# Altium integrated library ST Microcontroller 8-Bit.IntLib: 1326 symbols (part 15 of 31)
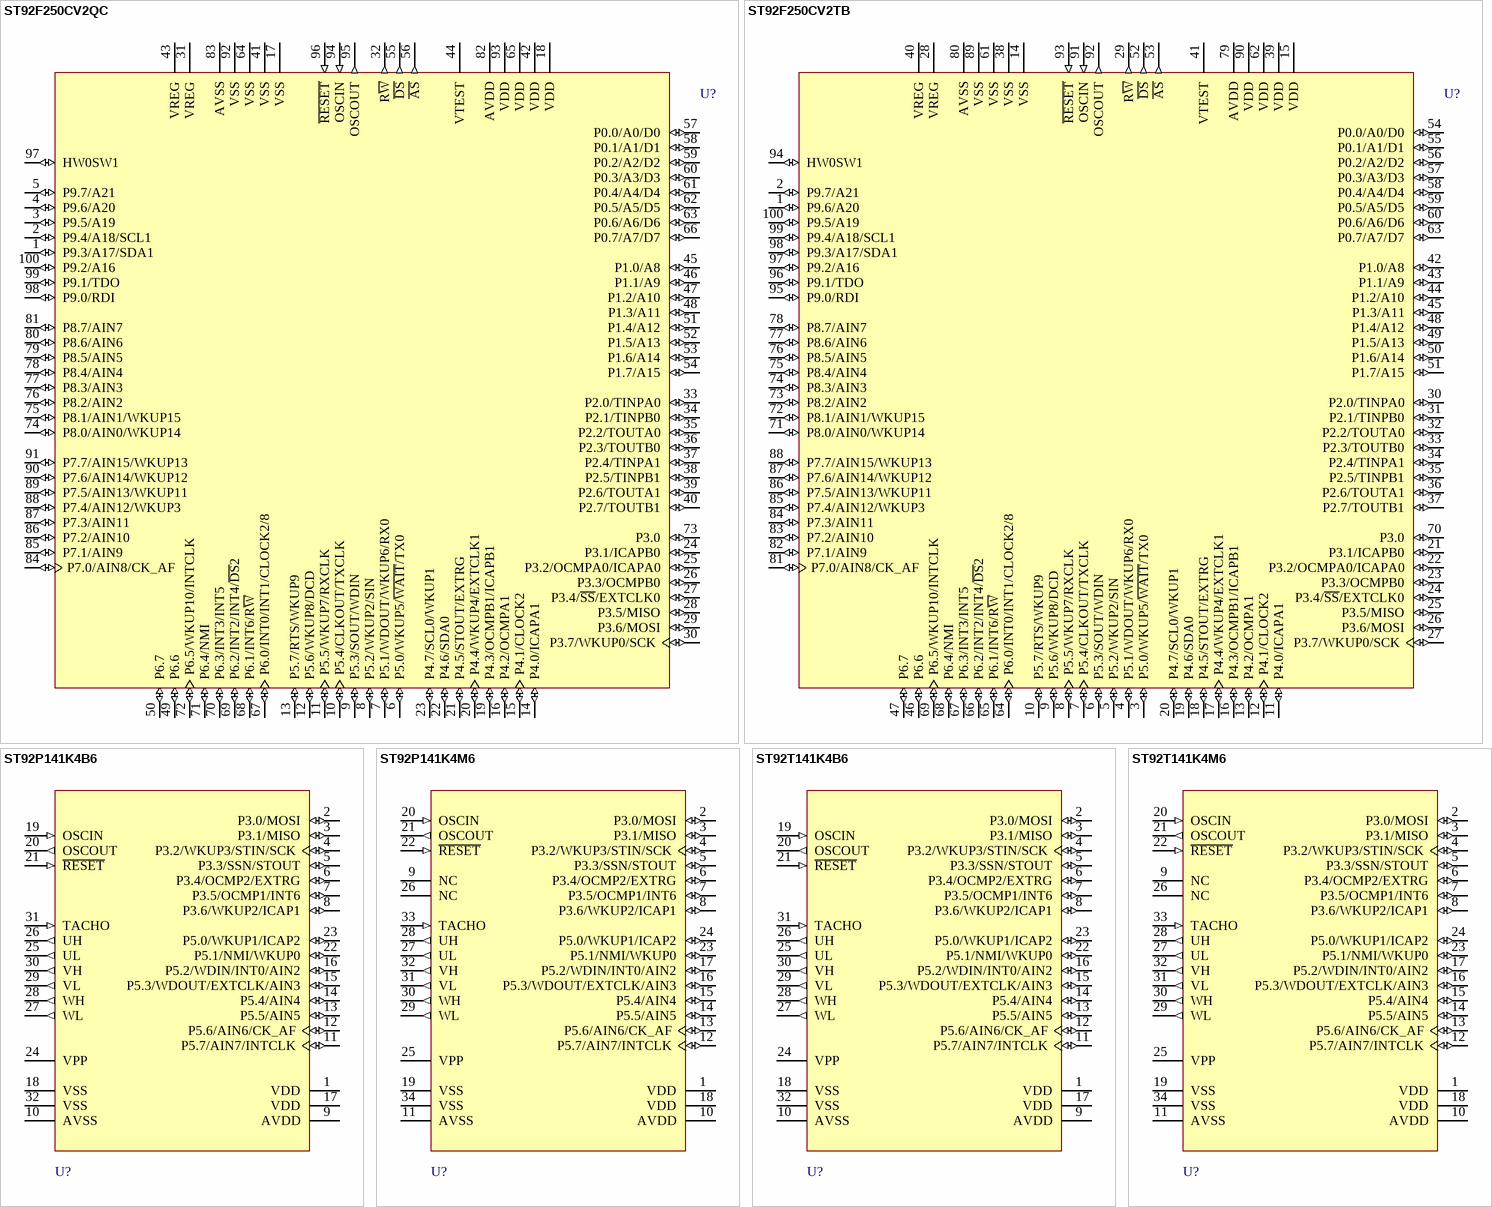
[diagram p181: symbols ST92F250CV2QC to ST92T141K4M6]

## ST92F250CV2TB
designator U?
8/16-Bit MCU with 256k Single Voltage FLASH Memory, 8k RAM, 1k E³PROM, ADC, CAN, LIN Master, Timers, SPI, I²C and SCI, 100-Pin TQFP; Note: VTEST must be kept low in standard operating mode.; Published: 26-May-2004; DatasheetDocument: rev1.3, Dec-2002; PackageDocument: Dec-2002; PackageReference: TQFP100; Publisher: Altium Limited; Code_IPC: SQFP14X14-100
footprint TQFP100 (QFP, Thin; 100 Leads; Body 14 x 14 mm; Pitch 0.5 mm)
pins: 1 P9.6/A20 (io), 2 P9.7/A21 (io), 3 P5.0/WKUP5/~{WAIT}/TX0 (io), 4 P5.1/WDOUT/WKUP6/RX0 (io), 5 P5.2/WKUP2/SIN (io), 6 P5.3/SOUT/WDIN (io), 7 P5.4/CLKOUT/TXCLK (io), 8 P5.5/WKUP7/RXCLK (io), 9 P5.6/WKUP8/DCD (io), 10 P5.7/RTS/WKUP9 (io), 11 P4.0/ICAPA1 (io), 12 P4.1/CLOCK2 (io), 13 P4.2/OCMPA1 (io), 14 VSS (power), 15 VDD (power), 16 P4.3/OCMPB1/ICAPB1 (io), 17 P4.4/WKUP4/EXTCLK1 (io), 18 P4.5/STOUT/EXTRG (io), 19 P4.6/SDA0 (io), 20 P4.7/SCL0/WKUP1 (io), 21 P3.1/ICAPB0 (io), 22 P3.2/OCMPA0/ICAPA0 (io), 23 P3.3/OCMPB0 (io), 24 P3.4/~{SS}/EXTCLK0 (io), 25 P3.5/MISO (io), 26 P3.6/MOSI (io), 27 P3.7/WKUP0/SCK (io), 28 VREG (power), 29 R~{W} (out), 30 P2.0/TINPA0 (io), 31 P2.1/TINPB0 (io), 32 P2.2/TOUTA0 (io), 33 P2.3/TOUTB0 (io), 34 P2.4/TINPA1 (io), 35 P2.5/TINPB1 (io), 36 P2.6/TOUTA1 (io), 37 P2.7/TOUTB1 (io), 38 VSS (power), 39 VDD (power), 40 VREG (power), 41 VTEST (power), 42 P1.0/A8 (io), 43 P1.1/A9 (io), 44 P1.2/A10 (io), 45 P1.3/A11 (io), 46 P6.6 (io), 47 P6.7 (io), 48 P1.4/A12 (io), 49 P1.5/A13 (io), 50 P1.6/A14 (io), 51 P1.7/A15 (io), 52 ~{DS} (out), 53 ~{AS} (out), 54 P0.0/A0/D0 (io), 55 P0.1/A1/D1 (io), 56 P0.2/A2/D2 (io), 57 P0.3/A3/D3 (io), 58 P0.4/A4/D4 (io), 59 P0.5/A5/D5 (io), 60 P0.6/A6/D6 (io), 61 VSS (power), 62 VDD (power), 63 P0.7/A7/D7 (io), 64 P6.0/INT0/INT1/CLOCK2/8 (io), 65 P6.1/INT6/R~{W} (io), 66 P6.2/INT2/INT4/~{DS}2 (io), 67 P6.3/INT3/INT5 (io), 68 P6.4/NMI (io), 69 P6.5/WKUP10/INTCLK (io), 70 P3.0 (io), 71 P8.0/AIN0/WKUP14 (io), 72 P8.1/AIN1/WKUP15 (io), 73 P8.2/AIN2 (io), 74 P8.3/AIN3 (io), 75 P8.4/AIN4 (io), 76 P8.5/AIN5 (io), 77 P8.6/AIN6 (io), 78 P8.7/AIN7 (io), 79 AVDD (power), 80 AVSS (power), 81 P7.0/AIN8/CK_AF (io), 82 P7.1/AIN9 (io), 83 P7.2/AIN10 (io), 84 P7.3/AIN11 (io), 85 P7.4/AIN12/WKUP3 (io), 86 P7.5/AIN13/WKUP11 (io), 87 P7.6/AIN14/WKUP12 (io), 88 P7.7/AIN15/WKUP13 (io), 89 VSS (power), 90 VDD (power), 91 OSCIN (in), 92 OSCOUT (out), 93 ~{RESET} (in), 94 HW0SW1 (io), 95 P9.0/RDI (io), 96 P9.1/TDO (io), 97 P9.2/A16 (io), 98 P9.3/A17/SDA1 (io), 99 P9.4/A18/SCL1 (io), 100 P9.5/A19 (io)

## ST92P141K4B6
designator U?
8/16-Bit MCU with 16k FASTROM, 512b RAM, 3-Phase AC Motor Control, 32-Pin PDIP; PackageDocument: rev1.7, Oct-2001; Published: 26-May-2004; DatasheetDocument: rev3.3, Jan-2001; PackageReference: PSDIP32; Publisher: Altium Limited
footprint PSDIP32 (DIP, Plastic Shrink; 32 Leads; Row Spacing 10.16 mm; Pitch 1.78 mm)
pins: 1 VDD (power), 2 P3.0/MOSI (io), 3 P3.1/MISO (io), 4 P3.2/WKUP3/STIN/SCK (io), 5 P3.3/SSN/STOUT (io), 6 P3.4/OCMP2/EXTRG (io), 7 P3.5/OCMP1/INT6 (io), 8 P3.6/WKUP2/ICAP1 (io), 9 AVDD (power), 10 AVSS (power), 11 P5.7/AIN7/INTCLK (io), 12 P5.6/AIN6/CK_AF (io), 13 P5.5/AIN5 (io), 14 P5.4/AIN4 (io), 15 P5.3/WDOUT/EXTCLK/AIN3 (io), 16 P5.2/WDIN/INT0/AIN2 (io), 17 VDD (power), 18 VSS (power), 19 OSCIN (in), 20 OSCOUT (out), 21 ~{RESET} (in), 22 P5.1/NMI/WKUP0 (io), 23 P5.0/WKUP1/ICAP2 (io), 24 VPP (power), 25 UL (out), 26 UH (out), 27 WL (out), 28 WH (out), 29 VL (out), 30 VH (out), 31 TACHO (in), 32 VSS (power)

## ST92P141K4M6
designator U?
8/16-Bit MCU with 16k FASTROM, 512b RAM, 3-Phase AC Motor Control, 34-Pin SOIC; PackageDocument: rev1.7, Oct-2001; Published: 26-May-2004; DatasheetDocument: rev3.3, Jan-2001; PackageReference: SO34S; Publisher: Altium Limited
footprint SO34S (Small Outline, Plastic; 34 Leads; Body Width 7.5 mm; Pitch 1.02 mm)
pins: 1 VDD (power), 2 P3.0/MOSI (io), 3 P3.1/MISO (io), 4 P3.2/WKUP3/STIN/SCK (io), 5 P3.3/SSN/STOUT (io), 6 P3.4/OCMP2/EXTRG (io), 7 P3.5/OCMP1/INT6 (io), 8 P3.6/WKUP2/ICAP1 (io), 9 NC, 10 AVDD (power), 11 AVSS (power), 12 P5.7/AIN7/INTCLK (io), 13 P5.6/AIN6/CK_AF (io), 14 P5.5/AIN5 (io), 15 P5.4/AIN4 (io), 16 P5.3/WDOUT/EXTCLK/AIN3 (io), 17 P5.2/WDIN/INT0/AIN2 (io), 18 VDD (power), 19 VSS (power), 20 OSCIN (in), 21 OSCOUT (out), 22 ~{RESET} (in), 23 P5.1/NMI/WKUP0 (io), 24 P5.0/WKUP1/ICAP2 (io), 25 VPP (power), 26 NC, 27 UL (out), 28 UH (out), 29 WL (out), 30 WH (out), 31 VL (out), 32 VH (out), 33 TACHO (in), 34 VSS (power)

## ST92T141K4B6
designator U?
8/16-Bit MCU with 16k OTP, 512b RAM, 3-Phase AC Motor Control, 32-Pin PDIP; PackageDocument: rev1.7, Oct-2001; Published: 26-May-2004; DatasheetDocument: rev3.3, Jan-2001; PackageReference: PSDIP32; Publisher: Altium Limited
footprint PSDIP32 (DIP, Plastic Shrink; 32 Leads; Row Spacing 10.16 mm; Pitch 1.78 mm)
pins: 1 VDD (power), 2 P3.0/MOSI (io), 3 P3.1/MISO (io), 4 P3.2/WKUP3/STIN/SCK (io), 5 P3.3/SSN/STOUT (io), 6 P3.4/OCMP2/EXTRG (io), 7 P3.5/OCMP1/INT6 (io), 8 P3.6/WKUP2/ICAP1 (io), 9 AVDD (power), 10 AVSS (power), 11 P5.7/AIN7/INTCLK (io), 12 P5.6/AIN6/CK_AF (io), 13 P5.5/AIN5 (io), 14 P5.4/AIN4 (io), 15 P5.3/WDOUT/EXTCLK/AIN3 (io), 16 P5.2/WDIN/INT0/AIN2 (io), 17 VDD (power), 18 VSS (power), 19 OSCIN (in), 20 OSCOUT (out), 21 ~{RESET} (in), 22 P5.1/NMI/WKUP0 (io), 23 P5.0/WKUP1/ICAP2 (io), 24 VPP (power), 25 UL (out), 26 UH (out), 27 WL (out), 28 WH (out), 29 VL (out), 30 VH (out), 31 TACHO (in), 32 VSS (power)

## ST92T141K4M6
designator U?
8/16-Bit MCU with 16k OTP, 512b RAM, 3-Phase AC Motor Control, 34-Pin SOIC; PackageDocument: rev1.7, Oct-2001; Published: 26-May-2004; DatasheetDocument: rev3.3, Jan-2001; PackageReference: SO34S; Publisher: Altium Limited
footprint SO34S (Small Outline, Plastic; 34 Leads; Body Width 7.5 mm; Pitch 1.02 mm)
pins: 1 VDD (power), 2 P3.0/MOSI (io), 3 P3.1/MISO (io), 4 P3.2/WKUP3/STIN/SCK (io), 5 P3.3/SSN/STOUT (io), 6 P3.4/OCMP2/EXTRG (io), 7 P3.5/OCMP1/INT6 (io), 8 P3.6/WKUP2/ICAP1 (io), 9 NC, 10 AVDD (power), 11 AVSS (power), 12 P5.7/AIN7/INTCLK (io), 13 P5.6/AIN6/CK_AF (io), 14 P5.5/AIN5 (io), 15 P5.4/AIN4 (io), 16 P5.3/WDOUT/EXTCLK/AIN3 (io), 17 P5.2/WDIN/INT0/AIN2 (io), 18 VDD (power), 19 VSS (power), 20 OSCIN (in), 21 OSCOUT (out), 22 ~{RESET} (in), 23 P5.1/NMI/WKUP0 (io), 24 P5.0/WKUP1/ICAP2 (io), 25 VPP (power), 26 NC, 27 UL (out), 28 UH (out), 29 WL (out), 30 WH (out), 31 VL (out), 32 VH (out), 33 TACHO (in), 34 VSS (power)

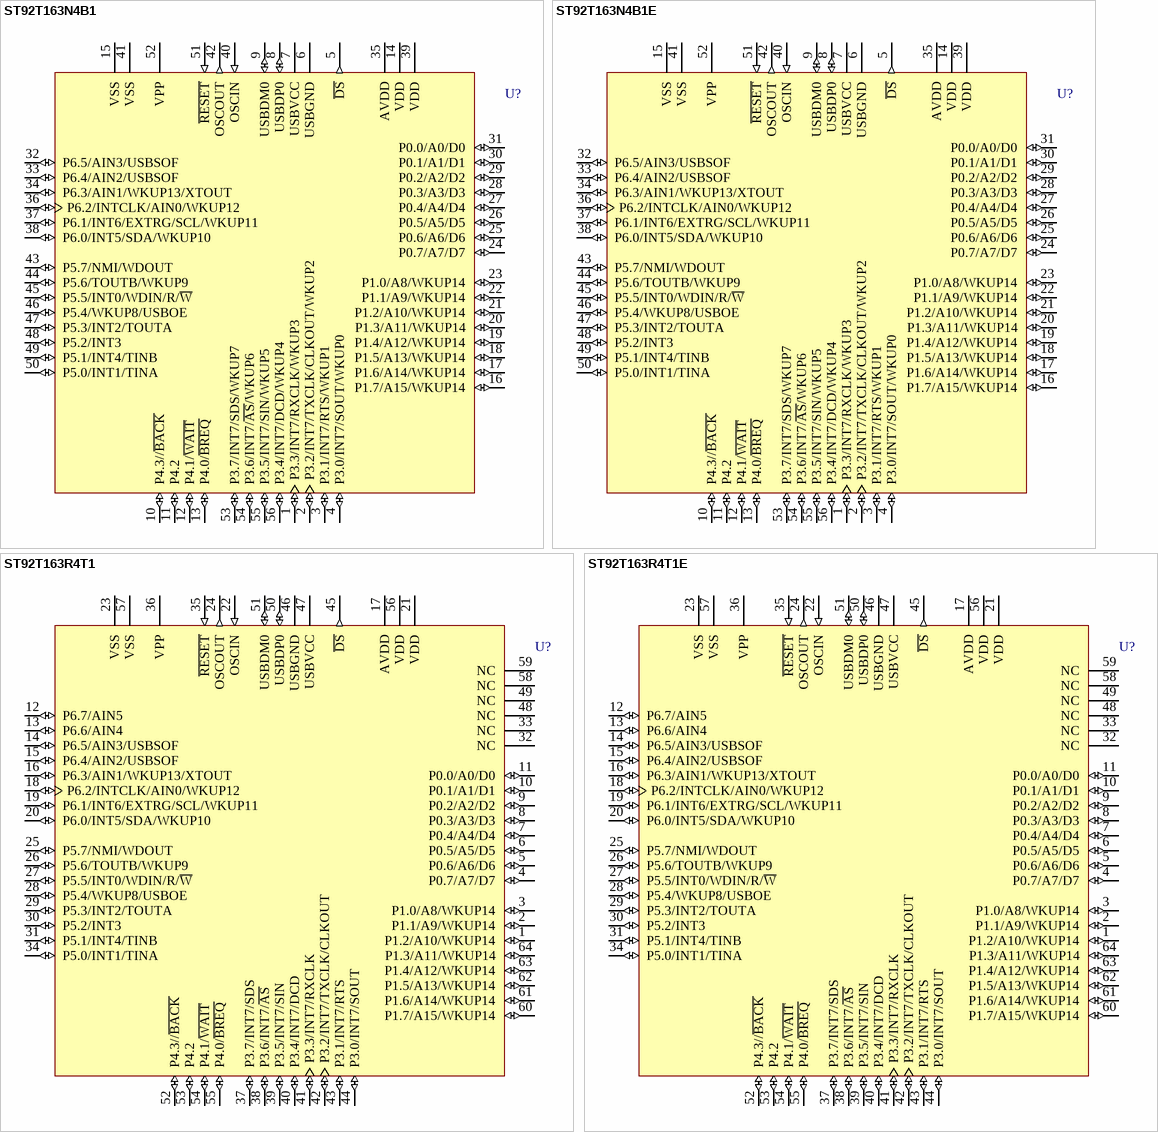
[diagram p76: symbols ST92T163N4B1 to ST92T163R4T1E]

## ST92T163N4B1
designator U?
8/16-Bit MCU with 20k OTP, 2k RAM, Full-Speed USB with 16 Endpoints, I²C, SCI and MFT, 56-Pin SDIP, Normal Mode; Published: 26-May-2004; DatasheetDocument: rev2.4, Jan-2002; PackageDocument: Jan-2002; PackageReference: PSDIP56; Publisher: Altium Limited
footprint PSDIP56 (DIP, Plastic Shrink; 56 Leads; Row Spacing 15.24 mm; Pitch 1.78 mm)
pins: 1 P3.3/INT7/RXCLK/WKUP3 (io), 2 P3.2/INT7/TXCLK/CLKOUT/WKUP2 (io), 3 P3.1/INT7/RTS/WKUP1 (io), 4 P3.0/INT7/SOUT/WKUP0 (io), 5 ~{DS} (out), 6 USBGND (power), 7 USBVCC (power), 8 USBDP0 (io), 9 USBDM0 (io), 10 P4.3//~{BACK} (io), 11 P4.2 (io), 12 P4.1/~{WAIT} (io), 13 P4.0/~{BREQ} (io), 14 VDD (power), 15 VSS (power), 16 P1.7/A15/WKUP14 (io), 17 P1.6/A14/WKUP14 (io), 18 P1.5/A13/WKUP14 (io), 19 P1.4/A12/WKUP14 (io), 20 P1.3/A11/WKUP14 (io), 21 P1.2/A10/WKUP14 (io), 22 P1.1/A9/WKUP14 (io), 23 P1.0/A8/WKUP14 (io), 24 P0.7/A7/D7 (io), 25 P0.6/A6/D6 (io), 26 P0.5/A5/D5 (io), 27 P0.4/A4/D4 (io), 28 P0.3/A3/D3 (io), 29 P0.2/A2/D2 (io), 30 P0.1/A1/D1 (io), 31 P0.0/A0/D0 (io), 32 P6.5/AIN3/USBSOF (io), 33 P6.4/AIN2/USBSOF (io), 34 P6.3/AIN1/WKUP13/XTOUT (io), 35 AVDD (power), 36 P6.2/INTCLK/AIN0/WKUP12 (io), 37 P6.1/INT6/EXTRG/SCL/WKUP11 (io), 38 P6.0/INT5/SDA/WKUP10 (io), 39 VDD (power), 40 OSCIN (in), 41 VSS (power), 42 OSCOUT (out), 43 P5.7/NMI/WDOUT (io), 44 P5.6/TOUTB/WKUP9 (io), 45 P5.5/INT0/WDIN/R/~{W} (io), 46 P5.4/WKUP8/USBOE (io), 47 P5.3/INT2/TOUTA (io), 48 P5.2/INT3 (io), 49 P5.1/INT4/TINB (io), 50 P5.0/INT1/TINA (io), 51 ~{RESET} (in), 52 VPP (power), 53 P3.7/INT7/SDS/WKUP7 (io), 54 P3.6/INT7/~{AS}/WKUP6 (io), 55 P3.5/INT7/SIN/WKUP5 (io), 56 P3.4/INT7/DCD/WKUP4 (io)

## ST92T163N4B1E
designator U?
8/16-Bit MCU with 20k OTP, 2k RAM, Full-Speed USB with 16 Endpoints, I²C, SCI and MFT, 56-Pin SDIP, Normal Mode; Published: 26-May-2004; DatasheetDocument: rev2.4, Jan-2002; PackageDocument: Jan-2002; PackageReference: PSDIP56; Publisher: Altium Limited
footprint PSDIP56 (DIP, Plastic Shrink; 56 Leads; Row Spacing 15.24 mm; Pitch 1.78 mm)
pins: 1 P3.3/INT7/RXCLK/WKUP3 (io), 2 P3.2/INT7/TXCLK/CLKOUT/WKUP2 (io), 3 P3.1/INT7/RTS/WKUP1 (io), 4 P3.0/INT7/SOUT/WKUP0 (io), 5 ~{DS} (out), 6 USBGND (power), 7 USBVCC (power), 8 USBDP0 (io), 9 USBDM0 (io), 10 P4.3//~{BACK} (io), 11 P4.2 (io), 12 P4.1/~{WAIT} (io), 13 P4.0/~{BREQ} (io), 14 VDD (power), 15 VSS (power), 16 P1.7/A15/WKUP14 (io), 17 P1.6/A14/WKUP14 (io), 18 P1.5/A13/WKUP14 (io), 19 P1.4/A12/WKUP14 (io), 20 P1.3/A11/WKUP14 (io), 21 P1.2/A10/WKUP14 (io), 22 P1.1/A9/WKUP14 (io), 23 P1.0/A8/WKUP14 (io), 24 P0.7/A7/D7 (io), 25 P0.6/A6/D6 (io), 26 P0.5/A5/D5 (io), 27 P0.4/A4/D4 (io), 28 P0.3/A3/D3 (io), 29 P0.2/A2/D2 (io), 30 P0.1/A1/D1 (io), 31 P0.0/A0/D0 (io), 32 P6.5/AIN3/USBSOF (io), 33 P6.4/AIN2/USBSOF (io), 34 P6.3/AIN1/WKUP13/XTOUT (io), 35 AVDD (power), 36 P6.2/INTCLK/AIN0/WKUP12 (io), 37 P6.1/INT6/EXTRG/SCL/WKUP11 (io), 38 P6.0/INT5/SDA/WKUP10 (io), 39 VDD (power), 40 OSCIN (in), 41 VSS (power), 42 OSCOUT (out), 43 P5.7/NMI/WDOUT (io), 44 P5.6/TOUTB/WKUP9 (io), 45 P5.5/INT0/WDIN/R/~{W} (io), 46 P5.4/WKUP8/USBOE (io), 47 P5.3/INT2/TOUTA (io), 48 P5.2/INT3 (io), 49 P5.1/INT4/TINB (io), 50 P5.0/INT1/TINA (io), 51 ~{RESET} (in), 52 VPP (power), 53 P3.7/INT7/SDS/WKUP7 (io), 54 P3.6/INT7/~{AS}/WKUP6 (io), 55 P3.5/INT7/SIN/WKUP5 (io), 56 P3.4/INT7/DCD/WKUP4 (io)

## ST92T163R4T1
designator U?
8/16-Bit MCU with 20k OTP, 2k RAM, Full-Speed USB with 16 Endpoints, I²C, SCI and MFT, 64-Pin TQFP, Normal Mode; PackageDocument: rev2.4, Jan-2002; Published: 26-May-2004; DatasheetDocument: rev2.4, Jan-2002; PackageReference: TQFP64-0.8; Publisher: Altium Limited
footprint TQFP64-0.8 (QFP, Thin; 64 Leads; Body 14 x 14 mm; Pitch 0.8 mm)
pins: 1 P1.2/A10/WKUP14 (io), 2 P1.1/A9/WKUP14 (io), 3 P1.0/A8/WKUP14 (io), 4 P0.7/A7/D7 (io), 5 P0.6/A6/D6 (io), 6 P0.5/A5/D5 (io), 7 P0.4/A4/D4 (io), 8 P0.3/A3/D3 (io), 9 P0.2/A2/D2 (io), 10 P0.1/A1/D1 (io), 11 P0.0/A0/D0 (io), 12 P6.7/AIN5 (io), 13 P6.6/AIN4 (io), 14 P6.5/AIN3/USBSOF (io), 15 P6.4/AIN2/USBSOF (io), 16 P6.3/AIN1/WKUP13/XTOUT (io), 17 AVDD (power), 18 P6.2/INTCLK/AIN0/WKUP12 (io), 19 P6.1/INT6/EXTRG/SCL/WKUP11 (io), 20 P6.0/INT5/SDA/WKUP10 (io), 21 VDD (power), 22 OSCIN (in), 23 VSS (power), 24 OSCOUT (out), 25 P5.7/NMI/WDOUT (io), 26 P5.6/TOUTB/WKUP9 (io), 27 P5.5/INT0/WDIN/R/~{W} (io), 28 P5.4/WKUP8/USBOE (io), 29 P5.3/INT2/TOUTA (io), 30 P5.2/INT3 (io), 31 P5.1/INT4/TINB (io), 32 NC, 33 NC, 34 P5.0/INT1/TINA (io), 35 ~{RESET} (in), 36 VPP (power), 37 P3.7/INT7/SDS (io), 38 P3.6/INT7/~{AS} (io), 39 P3.5/INT7/SIN (io), 40 P3.4/INT7/DCD (io), 41 P3.3/INT7/RXCLK (io), 42 P3.2/INT7/TXCLK/CLKOUT (io), 43 P3.1/INT7/RTS (io), 44 P3.0/INT7/SOUT (io), 45 ~{DS} (out), 46 USBGND (power), 47 USBVCC (power), 48 NC, 49 NC, 50 USBDP0 (io), 51 USBDM0 (io), 52 P4.3//~{BACK} (io), 53 P4.2 (io), 54 P4.1/~{WAIT} (io), 55 P4.0/~{BREQ} (io), 56 VDD (power), 57 VSS (power), 58 NC, 59 NC, 60 P1.7/A15/WKUP14 (io), 61 P1.6/A14/WKUP14 (io), 62 P1.5/A13/WKUP14 (io), 63 P1.4/A12/WKUP14 (io), 64 P1.3/A11/WKUP14 (io)

## ST92T163R4T1E
designator U?
8/16-Bit MCU with 20k OTP, 2k RAM, Full-Speed USB with 16 Endpoints, I²C, SCI and MFT, 64-Pin TQFP, Normal Mode; PackageDocument: rev2.4, Jan-2002; Published: 26-May-2004; DatasheetDocument: rev2.4, Jan-2002; PackageReference: TQFP64-0.8; Publisher: Altium Limited
footprint TQFP64-0.8 (QFP, Thin; 64 Leads; Body 14 x 14 mm; Pitch 0.8 mm)
pins: 1 P1.2/A10/WKUP14 (io), 2 P1.1/A9/WKUP14 (io), 3 P1.0/A8/WKUP14 (io), 4 P0.7/A7/D7 (io), 5 P0.6/A6/D6 (io), 6 P0.5/A5/D5 (io), 7 P0.4/A4/D4 (io), 8 P0.3/A3/D3 (io), 9 P0.2/A2/D2 (io), 10 P0.1/A1/D1 (io), 11 P0.0/A0/D0 (io), 12 P6.7/AIN5 (io), 13 P6.6/AIN4 (io), 14 P6.5/AIN3/USBSOF (io), 15 P6.4/AIN2/USBSOF (io), 16 P6.3/AIN1/WKUP13/XTOUT (io), 17 AVDD (power), 18 P6.2/INTCLK/AIN0/WKUP12 (io), 19 P6.1/INT6/EXTRG/SCL/WKUP11 (io), 20 P6.0/INT5/SDA/WKUP10 (io), 21 VDD (power), 22 OSCIN (in), 23 VSS (power), 24 OSCOUT (out), 25 P5.7/NMI/WDOUT (io), 26 P5.6/TOUTB/WKUP9 (io), 27 P5.5/INT0/WDIN/R/~{W} (io), 28 P5.4/WKUP8/USBOE (io), 29 P5.3/INT2/TOUTA (io), 30 P5.2/INT3 (io), 31 P5.1/INT4/TINB (io), 32 NC, 33 NC, 34 P5.0/INT1/TINA (io), 35 ~{RESET} (in), 36 VPP (power), 37 P3.7/INT7/SDS (io), 38 P3.6/INT7/~{AS} (io), 39 P3.5/INT7/SIN (io), 40 P3.4/INT7/DCD (io), 41 P3.3/INT7/RXCLK (io), 42 P3.2/INT7/TXCLK/CLKOUT (io), 43 P3.1/INT7/RTS (io), 44 P3.0/INT7/SOUT (io), 45 ~{DS} (out), 46 USBGND (power), 47 USBVCC (power), 48 NC, 49 NC, 50 USBDP0 (io), 51 USBDM0 (io), 52 P4.3//~{BACK} (io), 53 P4.2 (io), 54 P4.1/~{WAIT} (io), 55 P4.0/~{BREQ} (io), 56 VDD (power), 57 VSS (power), 58 NC, 59 NC, 60 P1.7/A15/WKUP14 (io), 61 P1.6/A14/WKUP14 (io), 62 P1.5/A13/WKUP14 (io), 63 P1.4/A12/WKUP14 (io), 64 P1.3/A11/WKUP14 (io)

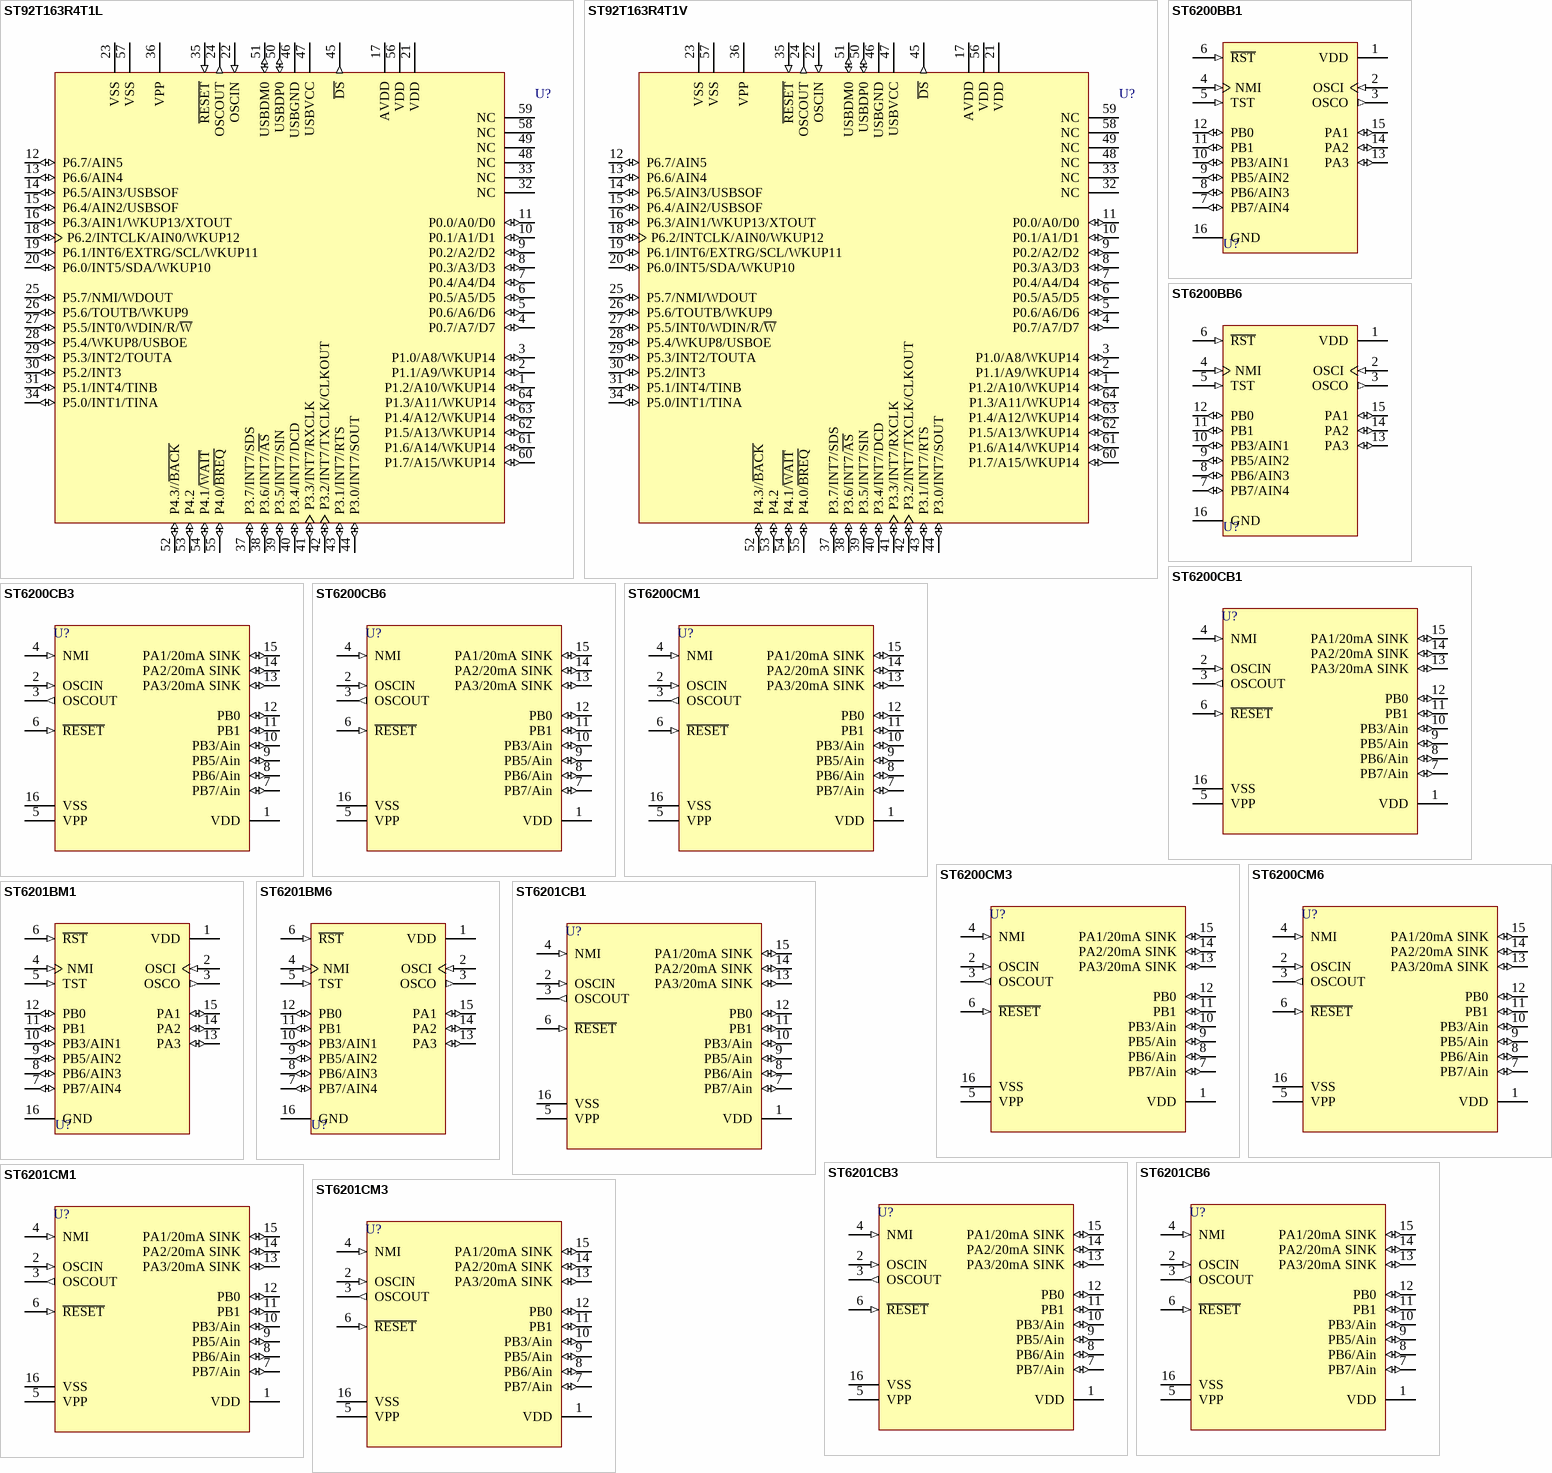
[diagram p77: symbols ST92T163R4T1L to ST6201CM3]

## ST92T163R4T1L
designator U?
8/16-Bit MCU with 20k OTP, 2k RAM, Full-Speed USB with 16 Endpoints, I²C, SCI and MFT, 64-Pin TQFP, Low Voltage Mode; PackageDocument: rev2.4, Jan-2002; Published: 26-May-2004; DatasheetDocument: rev2.4, Jan-2002; PackageReference: TQFP64-0.8; Publisher: Altium Limited
footprint TQFP64-0.8 (QFP, Thin; 64 Leads; Body 14 x 14 mm; Pitch 0.8 mm)
pins: 1 P1.2/A10/WKUP14 (io), 2 P1.1/A9/WKUP14 (io), 3 P1.0/A8/WKUP14 (io), 4 P0.7/A7/D7 (io), 5 P0.6/A6/D6 (io), 6 P0.5/A5/D5 (io), 7 P0.4/A4/D4 (io), 8 P0.3/A3/D3 (io), 9 P0.2/A2/D2 (io), 10 P0.1/A1/D1 (io), 11 P0.0/A0/D0 (io), 12 P6.7/AIN5 (io), 13 P6.6/AIN4 (io), 14 P6.5/AIN3/USBSOF (io), 15 P6.4/AIN2/USBSOF (io), 16 P6.3/AIN1/WKUP13/XTOUT (io), 17 AVDD (power), 18 P6.2/INTCLK/AIN0/WKUP12 (io), 19 P6.1/INT6/EXTRG/SCL/WKUP11 (io), 20 P6.0/INT5/SDA/WKUP10 (io), 21 VDD (power), 22 OSCIN (in), 23 VSS (power), 24 OSCOUT (out), 25 P5.7/NMI/WDOUT (io), 26 P5.6/TOUTB/WKUP9 (io), 27 P5.5/INT0/WDIN/R/~{W} (io), 28 P5.4/WKUP8/USBOE (io), 29 P5.3/INT2/TOUTA (io), 30 P5.2/INT3 (io), 31 P5.1/INT4/TINB (io), 32 NC, 33 NC, 34 P5.0/INT1/TINA (io), 35 ~{RESET} (in), 36 VPP (power), 37 P3.7/INT7/SDS (io), 38 P3.6/INT7/~{AS} (io), 39 P3.5/INT7/SIN (io), 40 P3.4/INT7/DCD (io), 41 P3.3/INT7/RXCLK (io), 42 P3.2/INT7/TXCLK/CLKOUT (io), 43 P3.1/INT7/RTS (io), 44 P3.0/INT7/SOUT (io), 45 ~{DS} (out), 46 USBGND (power), 47 USBVCC (power), 48 NC, 49 NC, 50 USBDP0 (io), 51 USBDM0 (io), 52 P4.3//~{BACK} (io), 53 P4.2 (io), 54 P4.1/~{WAIT} (io), 55 P4.0/~{BREQ} (io), 56 VDD (power), 57 VSS (power), 58 NC, 59 NC, 60 P1.7/A15/WKUP14 (io), 61 P1.6/A14/WKUP14 (io), 62 P1.5/A13/WKUP14 (io), 63 P1.4/A12/WKUP14 (io), 64 P1.3/A11/WKUP14 (io)

## ST92T163R4T1V
designator U?
8/16-Bit MCU with 20k OTP, 2k RAM, Full-Speed USB with 16 Endpoints, I²C, SCI and MFT, 64-Pin TQFP, Low Voltage Mode; PackageDocument: rev2.4, Jan-2002; Published: 26-May-2004; DatasheetDocument: rev2.4, Jan-2002; PackageReference: TQFP64-0.8; Publisher: Altium Limited
footprint TQFP64-0.8 (QFP, Thin; 64 Leads; Body 14 x 14 mm; Pitch 0.8 mm)
pins: 1 P1.2/A10/WKUP14 (io), 2 P1.1/A9/WKUP14 (io), 3 P1.0/A8/WKUP14 (io), 4 P0.7/A7/D7 (io), 5 P0.6/A6/D6 (io), 6 P0.5/A5/D5 (io), 7 P0.4/A4/D4 (io), 8 P0.3/A3/D3 (io), 9 P0.2/A2/D2 (io), 10 P0.1/A1/D1 (io), 11 P0.0/A0/D0 (io), 12 P6.7/AIN5 (io), 13 P6.6/AIN4 (io), 14 P6.5/AIN3/USBSOF (io), 15 P6.4/AIN2/USBSOF (io), 16 P6.3/AIN1/WKUP13/XTOUT (io), 17 AVDD (power), 18 P6.2/INTCLK/AIN0/WKUP12 (io), 19 P6.1/INT6/EXTRG/SCL/WKUP11 (io), 20 P6.0/INT5/SDA/WKUP10 (io), 21 VDD (power), 22 OSCIN (in), 23 VSS (power), 24 OSCOUT (out), 25 P5.7/NMI/WDOUT (io), 26 P5.6/TOUTB/WKUP9 (io), 27 P5.5/INT0/WDIN/R/~{W} (io), 28 P5.4/WKUP8/USBOE (io), 29 P5.3/INT2/TOUTA (io), 30 P5.2/INT3 (io), 31 P5.1/INT4/TINB (io), 32 NC, 33 NC, 34 P5.0/INT1/TINA (io), 35 ~{RESET} (in), 36 VPP (power), 37 P3.7/INT7/SDS (io), 38 P3.6/INT7/~{AS} (io), 39 P3.5/INT7/SIN (io), 40 P3.4/INT7/DCD (io), 41 P3.3/INT7/RXCLK (io), 42 P3.2/INT7/TXCLK/CLKOUT (io), 43 P3.1/INT7/RTS (io), 44 P3.0/INT7/SOUT (io), 45 ~{DS} (out), 46 USBGND (power), 47 USBVCC (power), 48 NC, 49 NC, 50 USBDP0 (io), 51 USBDM0 (io), 52 P4.3//~{BACK} (io), 53 P4.2 (io), 54 P4.1/~{WAIT} (io), 55 P4.0/~{BREQ} (io), 56 VDD (power), 57 VSS (power), 58 NC, 59 NC, 60 P1.7/A15/WKUP14 (io), 61 P1.6/A14/WKUP14 (io), 62 P1.5/A13/WKUP14 (io), 63 P1.4/A12/WKUP14 (io), 64 P1.3/A11/WKUP14 (io)

## ST6200BB1
designator U?
8-Bit HCMOS MCU with A/D Converter; Published: 24-Aug-2001; LatestRevisionDate: 17-Jul-2002; LatestRevisionNote: Re-released for DXP Platform.; DatasheetDocument: Oct-1996; PackageDocument: Apr-1996; PackageReference: DIP16; Publisher: Altium Limited
footprint DIP16 (DIP; 16 Leads; Row Spacing 7.62 mm; Pitch 2.54 mm)
pins: 1 VDD (power), 2 OSCI (in), 3 OSCO (out), 4 NMI (in), 5 TST (in), 6 ~{RST} (in), 7 PB7/AIN4 (io), 8 PB6/AIN3 (io), 9 PB5/AIN2 (io), 10 PB3/AIN1 (io), 11 PB1 (io), 12 PB0 (io), 13 PA3 (io), 14 PA2 (io), 15 PA1 (io), 16 GND (power)

## ST6200BB6
designator U?
8-Bit HCMOS MCU with A/D Converter; Published: 24-Aug-2001; LatestRevisionDate: 17-Jul-2002; LatestRevisionNote: Re-released for DXP Platform.; DatasheetDocument: Oct-1996; PackageDocument: Apr-1996; PackageReference: DIP16; Publisher: Altium Limited
footprint DIP16 (DIP; 16 Leads; Row Spacing 7.62 mm; Pitch 2.54 mm)
pins: 1 VDD (power), 2 OSCI (in), 3 OSCO (out), 4 NMI (in), 5 TST (in), 6 ~{RST} (in), 7 PB7/AIN4 (io), 8 PB6/AIN3 (io), 9 PB5/AIN2 (io), 10 PB3/AIN1 (io), 11 PB1 (io), 12 PB0 (io), 13 PA3 (io), 14 PA2 (io), 15 PA1 (io), 16 GND (power)

## ST6200CB1
designator U?
8-Bit ROM MCU with A/D Converter, Two Timers, Oscillator Safeguard and Safe Reset, 16-Pin PDIP, Standard; Published: 26-May-2004; DatasheetDocument: rev3.3, Oct-2003; PackageDocument: Dec-2003; PackageReference: PDIP16; Publisher: Altium Limited
footprint PDIP16 (DIP; 16 Leads; Row Spacing 7.62 mm; Pitch 2.54 mm)
pins: 1 VDD (power), 2 OSCIN (in), 3 OSCOUT (out), 4 NMI (in), 5 VPP (power), 6 ~{RESET} (in), 7 PB7/Ain (io), 8 PB6/Ain (io), 9 PB5/Ain (io), 10 PB3/Ain (io), 11 PB1 (io), 12 PB0 (io), 13 PA3/20mA SINK (io), 14 PA2/20mA SINK (io), 15 PA1/20mA SINK (io), 16 VSS (power)

## ST6200CB3
designator U?
8-Bit ROM MCU with A/D Converter, Two Timers, Oscillator Safeguard and Safe Reset, 16-Pin PDIP, Automotive; Published: 26-May-2004; DatasheetDocument: rev3.3, Oct-2003; PackageDocument: Dec-2003; PackageReference: PDIP16; Publisher: Altium Limited
footprint PDIP16 (DIP; 16 Leads; Row Spacing 7.62 mm; Pitch 2.54 mm)
pins: 1 VDD (power), 2 OSCIN (in), 3 OSCOUT (out), 4 NMI (in), 5 VPP (power), 6 ~{RESET} (in), 7 PB7/Ain (io), 8 PB6/Ain (io), 9 PB5/Ain (io), 10 PB3/Ain (io), 11 PB1 (io), 12 PB0 (io), 13 PA3/20mA SINK (io), 14 PA2/20mA SINK (io), 15 PA1/20mA SINK (io), 16 VSS (power)

## ST6200CB6
designator U?
8-Bit ROM MCU with A/D Converter, Two Timers, Oscillator Safeguard and Safe Reset, 16-Pin PDIP, Industrial; Published: 26-May-2004; DatasheetDocument: rev3.3, Oct-2003; PackageDocument: Dec-2003; PackageReference: PDIP16; Publisher: Altium Limited
footprint PDIP16 (DIP; 16 Leads; Row Spacing 7.62 mm; Pitch 2.54 mm)
pins: 1 VDD (power), 2 OSCIN (in), 3 OSCOUT (out), 4 NMI (in), 5 VPP (power), 6 ~{RESET} (in), 7 PB7/Ain (io), 8 PB6/Ain (io), 9 PB5/Ain (io), 10 PB3/Ain (io), 11 PB1 (io), 12 PB0 (io), 13 PA3/20mA SINK (io), 14 PA2/20mA SINK (io), 15 PA1/20mA SINK (io), 16 VSS (power)

## ST6200CM1
designator U?
8-Bit ROM MCU with A/D Converter, Two Timers, Oscillator Safeguard and Safe Reset, 16-Pin SOIC, Standard; Published: 26-May-2004; DatasheetDocument: rev3.3, Oct-2003; PackageDocument: Apr-1998; PackageReference: SO16W; Publisher: Altium Limited; Code_JEDEC: MS-013-AA; Code_IPC: SO16W
footprint SO16W (Small Outline; 16 Leads; Body Width 7.5 mm; Pitch 1.27 mm)
pins: 1 VDD (power), 2 OSCIN (in), 3 OSCOUT (out), 4 NMI (in), 5 VPP (power), 6 ~{RESET} (in), 7 PB7/Ain (io), 8 PB6/Ain (io), 9 PB5/Ain (io), 10 PB3/Ain (io), 11 PB1 (io), 12 PB0 (io), 13 PA3/20mA SINK (io), 14 PA2/20mA SINK (io), 15 PA1/20mA SINK (io), 16 VSS (power)

## ST6200CM3
designator U?
8-Bit ROM MCU with A/D Converter, Two Timers, Oscillator Safeguard and Safe Reset, 16-Pin SOIC, Automotive; Published: 26-May-2004; DatasheetDocument: rev3.3, Oct-2003; PackageDocument: Apr-1998; PackageReference: SO16W; Publisher: Altium Limited; Code_JEDEC: MS-013-AA; Code_IPC: SO16W
footprint SO16W (Small Outline; 16 Leads; Body Width 7.5 mm; Pitch 1.27 mm)
pins: 1 VDD (power), 2 OSCIN (in), 3 OSCOUT (out), 4 NMI (in), 5 VPP (power), 6 ~{RESET} (in), 7 PB7/Ain (io), 8 PB6/Ain (io), 9 PB5/Ain (io), 10 PB3/Ain (io), 11 PB1 (io), 12 PB0 (io), 13 PA3/20mA SINK (io), 14 PA2/20mA SINK (io), 15 PA1/20mA SINK (io), 16 VSS (power)

## ST6200CM6
designator U?
8-Bit ROM MCU with A/D Converter, Two Timers, Oscillator Safeguard and Safe Reset, 16-Pin SOIC, Industrial; Published: 26-May-2004; DatasheetDocument: rev3.3, Oct-2003; PackageDocument: Apr-1998; PackageReference: SO16W; Publisher: Altium Limited; Code_JEDEC: MS-013-AA; Code_IPC: SO16W
footprint SO16W (Small Outline; 16 Leads; Body Width 7.5 mm; Pitch 1.27 mm)
pins: 1 VDD (power), 2 OSCIN (in), 3 OSCOUT (out), 4 NMI (in), 5 VPP (power), 6 ~{RESET} (in), 7 PB7/Ain (io), 8 PB6/Ain (io), 9 PB5/Ain (io), 10 PB3/Ain (io), 11 PB1 (io), 12 PB0 (io), 13 PA3/20mA SINK (io), 14 PA2/20mA SINK (io), 15 PA1/20mA SINK (io), 16 VSS (power)

## ST6201BM1
designator U?
8-Bit HCMOS MCU with A/D Converter; Published: 24-Aug-2001; LatestRevisionDate: 26-May-2004; LatestRevisionNote: PCB Footprint adjusted to match with IPC-SM-782.; DatasheetDocument: Oct-1996; PackageDocument: Apr-1998; PackageReference: SO16W; Publisher: Altium Limited; Code_JEDEC: MS-013-AA; Code_IPC: SO16W
footprint SO16W (Small Outline; 16 Leads; Body Width 7.5 mm; Pitch 1.27 mm)
pins: 1 VDD (power), 2 OSCI (in), 3 OSCO (out), 4 NMI (in), 5 TST (in), 6 ~{RST} (in), 7 PB7/AIN4 (io), 8 PB6/AIN3 (io), 9 PB5/AIN2 (io), 10 PB3/AIN1 (io), 11 PB1 (io), 12 PB0 (io), 13 PA3 (io), 14 PA2 (io), 15 PA1 (io), 16 GND (power)

## ST6201BM6
designator U?
8-Bit HCMOS MCU with A/D Converter; Published: 24-Aug-2001; LatestRevisionDate: 26-May-2004; LatestRevisionNote: PCB Footprint adjusted to match with IPC-SM-782.; DatasheetDocument: Oct-1996; PackageDocument: Apr-1998; PackageReference: SO16W; Publisher: Altium Limited; Code_JEDEC: MS-013-AA; Code_IPC: SO16W
footprint SO16W (Small Outline; 16 Leads; Body Width 7.5 mm; Pitch 1.27 mm)
pins: 1 VDD (power), 2 OSCI (in), 3 OSCO (out), 4 NMI (in), 5 TST (in), 6 ~{RST} (in), 7 PB7/AIN4 (io), 8 PB6/AIN3 (io), 9 PB5/AIN2 (io), 10 PB3/AIN1 (io), 11 PB1 (io), 12 PB0 (io), 13 PA3 (io), 14 PA2 (io), 15 PA1 (io), 16 GND (power)

## ST6201CB1
designator U?
8-Bit ROM MCU with A/D Converter, Two Timers, Oscillator Safeguard and Safe Reset, 16-Pin PDIP, Standard; Published: 26-May-2004; DatasheetDocument: rev3.3, Oct-2003; PackageDocument: Dec-2003; PackageReference: PDIP16; Publisher: Altium Limited
footprint PDIP16 (DIP; 16 Leads; Row Spacing 7.62 mm; Pitch 2.54 mm)
pins: 1 VDD (power), 2 OSCIN (in), 3 OSCOUT (out), 4 NMI (in), 5 VPP (power), 6 ~{RESET} (in), 7 PB7/Ain (io), 8 PB6/Ain (io), 9 PB5/Ain (io), 10 PB3/Ain (io), 11 PB1 (io), 12 PB0 (io), 13 PA3/20mA SINK (io), 14 PA2/20mA SINK (io), 15 PA1/20mA SINK (io), 16 VSS (power)

## ST6201CB3
designator U?
8-Bit ROM MCU with A/D Converter, Two Timers, Oscillator Safeguard and Safe Reset, 16-Pin PDIP, Automotive; Published: 26-May-2004; DatasheetDocument: rev3.3, Oct-2003; PackageDocument: Dec-2003; PackageReference: PDIP16; Publisher: Altium Limited
footprint PDIP16 (DIP; 16 Leads; Row Spacing 7.62 mm; Pitch 2.54 mm)
pins: 1 VDD (power), 2 OSCIN (in), 3 OSCOUT (out), 4 NMI (in), 5 VPP (power), 6 ~{RESET} (in), 7 PB7/Ain (io), 8 PB6/Ain (io), 9 PB5/Ain (io), 10 PB3/Ain (io), 11 PB1 (io), 12 PB0 (io), 13 PA3/20mA SINK (io), 14 PA2/20mA SINK (io), 15 PA1/20mA SINK (io), 16 VSS (power)

## ST6201CB6
designator U?
8-Bit ROM MCU with A/D Converter, Two Timers, Oscillator Safeguard and Safe Reset, 16-Pin PDIP, Industrial; Published: 26-May-2004; DatasheetDocument: rev3.3, Oct-2003; PackageDocument: Dec-2003; PackageReference: PDIP16; Publisher: Altium Limited
footprint PDIP16 (DIP; 16 Leads; Row Spacing 7.62 mm; Pitch 2.54 mm)
pins: 1 VDD (power), 2 OSCIN (in), 3 OSCOUT (out), 4 NMI (in), 5 VPP (power), 6 ~{RESET} (in), 7 PB7/Ain (io), 8 PB6/Ain (io), 9 PB5/Ain (io), 10 PB3/Ain (io), 11 PB1 (io), 12 PB0 (io), 13 PA3/20mA SINK (io), 14 PA2/20mA SINK (io), 15 PA1/20mA SINK (io), 16 VSS (power)

## ST6201CM1
designator U?
8-Bit ROM MCU with A/D Converter, Two Timers, Oscillator Safeguard and Safe Reset, 16-Pin SOIC, Standard; Published: 26-May-2004; DatasheetDocument: rev3.3, Oct-2003; PackageDocument: Apr-1998; PackageReference: SO16W; Publisher: Altium Limited; Code_JEDEC: MS-013-AA; Code_IPC: SO16W
footprint SO16W (Small Outline; 16 Leads; Body Width 7.5 mm; Pitch 1.27 mm)
pins: 1 VDD (power), 2 OSCIN (in), 3 OSCOUT (out), 4 NMI (in), 5 VPP (power), 6 ~{RESET} (in), 7 PB7/Ain (io), 8 PB6/Ain (io), 9 PB5/Ain (io), 10 PB3/Ain (io), 11 PB1 (io), 12 PB0 (io), 13 PA3/20mA SINK (io), 14 PA2/20mA SINK (io), 15 PA1/20mA SINK (io), 16 VSS (power)

## ST6201CM3
designator U?
8-Bit ROM MCU with A/D Converter, Two Timers, Oscillator Safeguard and Safe Reset, 16-Pin SOIC, Automotive; Published: 26-May-2004; DatasheetDocument: rev3.3, Oct-2003; PackageDocument: Apr-1998; PackageReference: SO16W; Publisher: Altium Limited; Code_JEDEC: MS-013-AA; Code_IPC: SO16W
footprint SO16W (Small Outline; 16 Leads; Body Width 7.5 mm; Pitch 1.27 mm)
pins: 1 VDD (power), 2 OSCIN (in), 3 OSCOUT (out), 4 NMI (in), 5 VPP (power), 6 ~{RESET} (in), 7 PB7/Ain (io), 8 PB6/Ain (io), 9 PB5/Ain (io), 10 PB3/Ain (io), 11 PB1 (io), 12 PB0 (io), 13 PA3/20mA SINK (io), 14 PA2/20mA SINK (io), 15 PA1/20mA SINK (io), 16 VSS (power)

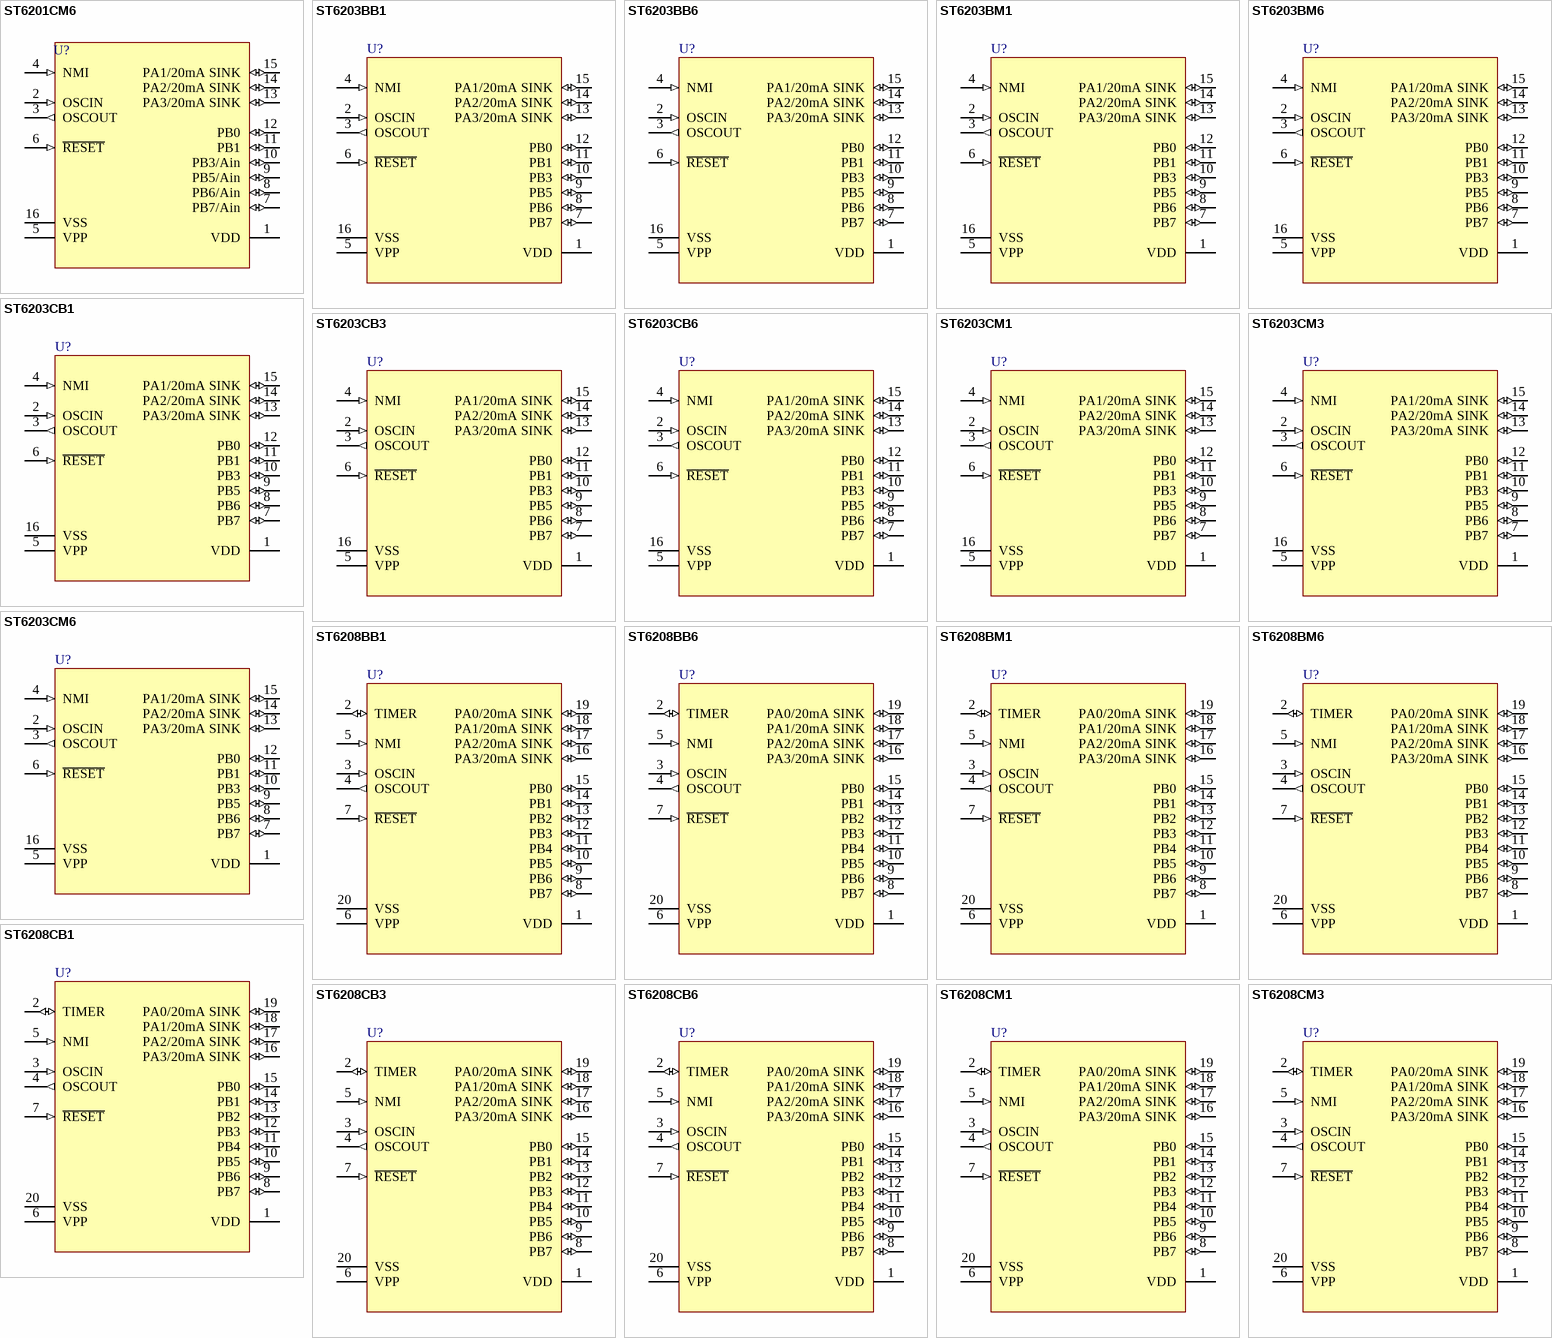
[diagram p78: symbols ST6201CM6 to ST6208CM3]

## ST6201CM6
designator U?
8-Bit ROM MCU with A/D Converter, Two Timers, Oscillator Safeguard and Safe Reset, 16-Pin SOIC, Industrial; Published: 26-May-2004; DatasheetDocument: rev3.3, Oct-2003; PackageDocument: Apr-1998; PackageReference: SO16W; Publisher: Altium Limited; Code_JEDEC: MS-013-AA; Code_IPC: SO16W
footprint SO16W (Small Outline; 16 Leads; Body Width 7.5 mm; Pitch 1.27 mm)
pins: 1 VDD (power), 2 OSCIN (in), 3 OSCOUT (out), 4 NMI (in), 5 VPP (power), 6 ~{RESET} (in), 7 PB7/Ain (io), 8 PB6/Ain (io), 9 PB5/Ain (io), 10 PB3/Ain (io), 11 PB1 (io), 12 PB0 (io), 13 PA3/20mA SINK (io), 14 PA2/20mA SINK (io), 15 PA1/20mA SINK (io), 16 VSS (power)

## ST6203BB1
designator U?
8-Bit HCMOS MCU; Published: 24-Aug-2001; LatestRevisionDate: 17-Jul-2002; LatestRevisionNote: Re-released for DXP Platform.; DatasheetDocument: Oct-1996; PackageDocument: Apr-1996; PackageReference: DIP16; Publisher: Altium Limited
footprint DIP16 (DIP; 16 Leads; Row Spacing 7.62 mm; Pitch 2.54 mm)
pins: 1 VDD (power), 2 OSCIN (in), 3 OSCOUT (out), 4 NMI (in), 5 VPP (power), 6 ~{RESET} (in), 7 PB7 (io), 8 PB6 (io), 9 PB5 (io), 10 PB3 (io), 11 PB1 (io), 12 PB0 (io), 13 PA3/20mA SINK (io), 14 PA2/20mA SINK (io), 15 PA1/20mA SINK (io), 16 VSS (power)

## ST6203BB6
designator U?
8-Bit HCMOS MCU; Published: 24-Aug-2001; LatestRevisionDate: 17-Jul-2002; LatestRevisionNote: Re-released for DXP Platform.; DatasheetDocument: Oct-1996; PackageDocument: Apr-1996; PackageReference: DIP16; Publisher: Altium Limited
footprint DIP16 (DIP; 16 Leads; Row Spacing 7.62 mm; Pitch 2.54 mm)
pins: 1 VDD (power), 2 OSCIN (in), 3 OSCOUT (out), 4 NMI (in), 5 VPP (power), 6 ~{RESET} (in), 7 PB7 (io), 8 PB6 (io), 9 PB5 (io), 10 PB3 (io), 11 PB1 (io), 12 PB0 (io), 13 PA3/20mA SINK (io), 14 PA2/20mA SINK (io), 15 PA1/20mA SINK (io), 16 VSS (power)

## ST6203BM1
designator U?
8-Bit HCMOS MCU; Published: 24-Aug-2001; LatestRevisionDate: 26-May-2004; LatestRevisionNote: PCB Footprint adjusted to match with IPC-SM-782.; DatasheetDocument: Oct-1996; PackageDocument: Apr-1998; PackageReference: SO16W; Publisher: Altium Limited; Code_JEDEC: MS-013-AA; Code_IPC: SO16W
footprint SO16W (Small Outline; 16 Leads; Body Width 7.5 mm; Pitch 1.27 mm)
pins: 1 VDD (power), 2 OSCIN (in), 3 OSCOUT (out), 4 NMI (in), 5 VPP (power), 6 ~{RESET} (in), 7 PB7 (io), 8 PB6 (io), 9 PB5 (io), 10 PB3 (io), 11 PB1 (io), 12 PB0 (io), 13 PA3/20mA SINK (io), 14 PA2/20mA SINK (io), 15 PA1/20mA SINK (io), 16 VSS (power)

## ST6203BM6
designator U?
8-Bit HCMOS MCU; Published: 24-Aug-2001; LatestRevisionDate: 26-May-2004; LatestRevisionNote: PCB Footprint adjusted to match with IPC-SM-782.; DatasheetDocument: Oct-1996; PackageDocument: Apr-1998; PackageReference: SO16W; Publisher: Altium Limited; Code_JEDEC: MS-013-AA; Code_IPC: SO16W
footprint SO16W (Small Outline; 16 Leads; Body Width 7.5 mm; Pitch 1.27 mm)
pins: 1 VDD (power), 2 OSCIN (in), 3 OSCOUT (out), 4 NMI (in), 5 VPP (power), 6 ~{RESET} (in), 7 PB7 (io), 8 PB6 (io), 9 PB5 (io), 10 PB3 (io), 11 PB1 (io), 12 PB0 (io), 13 PA3/20mA SINK (io), 14 PA2/20mA SINK (io), 15 PA1/20mA SINK (io), 16 VSS (power)

## ST6203CB1
designator U?
8-Bit ROM MCU with A/D Converter, Two Timers, Oscillator Safeguard and Safe Reset, 16-Pin PDIP, Standard; Published: 26-May-2004; DatasheetDocument: rev3.3, Oct-2003; PackageDocument: Dec-2003; PackageReference: PDIP16; Publisher: Altium Limited
footprint PDIP16 (DIP; 16 Leads; Row Spacing 7.62 mm; Pitch 2.54 mm)
pins: 1 VDD (power), 2 OSCIN (in), 3 OSCOUT (out), 4 NMI (in), 5 VPP (power), 6 ~{RESET} (in), 7 PB7 (io), 8 PB6 (io), 9 PB5 (io), 10 PB3 (io), 11 PB1 (io), 12 PB0 (io), 13 PA3/20mA SINK (io), 14 PA2/20mA SINK (io), 15 PA1/20mA SINK (io), 16 VSS (power)

## ST6203CB3
designator U?
8-Bit ROM MCU with A/D Converter, Two Timers, Oscillator Safeguard and Safe Reset, 16-Pin PDIP, Automotive; Published: 26-May-2004; DatasheetDocument: rev3.3, Oct-2003; PackageDocument: Dec-2003; PackageReference: PDIP16; Publisher: Altium Limited
footprint PDIP16 (DIP; 16 Leads; Row Spacing 7.62 mm; Pitch 2.54 mm)
pins: 1 VDD (power), 2 OSCIN (in), 3 OSCOUT (out), 4 NMI (in), 5 VPP (power), 6 ~{RESET} (in), 7 PB7 (io), 8 PB6 (io), 9 PB5 (io), 10 PB3 (io), 11 PB1 (io), 12 PB0 (io), 13 PA3/20mA SINK (io), 14 PA2/20mA SINK (io), 15 PA1/20mA SINK (io), 16 VSS (power)

## ST6203CB6
designator U?
8-Bit ROM MCU with A/D Converter, Two Timers, Oscillator Safeguard and Safe Reset, 16-Pin PDIP, Industrial; Published: 26-May-2004; DatasheetDocument: rev3.3, Oct-2003; PackageDocument: Dec-2003; PackageReference: PDIP16; Publisher: Altium Limited
footprint PDIP16 (DIP; 16 Leads; Row Spacing 7.62 mm; Pitch 2.54 mm)
pins: 1 VDD (power), 2 OSCIN (in), 3 OSCOUT (out), 4 NMI (in), 5 VPP (power), 6 ~{RESET} (in), 7 PB7 (io), 8 PB6 (io), 9 PB5 (io), 10 PB3 (io), 11 PB1 (io), 12 PB0 (io), 13 PA3/20mA SINK (io), 14 PA2/20mA SINK (io), 15 PA1/20mA SINK (io), 16 VSS (power)

## ST6203CM1
designator U?
8-Bit ROM MCU with A/D Converter, Two Timers, Oscillator Safeguard and Safe Reset, 16-Pin SOIC, Standard; Published: 26-May-2004; DatasheetDocument: rev3.3, Oct-2003; PackageDocument: Apr-1998; PackageReference: SO16W; Publisher: Altium Limited; Code_JEDEC: MS-013-AA; Code_IPC: SO16W
footprint SO16W (Small Outline; 16 Leads; Body Width 7.5 mm; Pitch 1.27 mm)
pins: 1 VDD (power), 2 OSCIN (in), 3 OSCOUT (out), 4 NMI (in), 5 VPP (power), 6 ~{RESET} (in), 7 PB7 (io), 8 PB6 (io), 9 PB5 (io), 10 PB3 (io), 11 PB1 (io), 12 PB0 (io), 13 PA3/20mA SINK (io), 14 PA2/20mA SINK (io), 15 PA1/20mA SINK (io), 16 VSS (power)

## ST6203CM3
designator U?
8-Bit ROM MCU with A/D Converter, Two Timers, Oscillator Safeguard and Safe Reset, 16-Pin SOIC, Automotive; Published: 26-May-2004; DatasheetDocument: rev3.3, Oct-2003; PackageDocument: Apr-1998; PackageReference: SO16W; Publisher: Altium Limited; Code_JEDEC: MS-013-AA; Code_IPC: SO16W
footprint SO16W (Small Outline; 16 Leads; Body Width 7.5 mm; Pitch 1.27 mm)
pins: 1 VDD (power), 2 OSCIN (in), 3 OSCOUT (out), 4 NMI (in), 5 VPP (power), 6 ~{RESET} (in), 7 PB7 (io), 8 PB6 (io), 9 PB5 (io), 10 PB3 (io), 11 PB1 (io), 12 PB0 (io), 13 PA3/20mA SINK (io), 14 PA2/20mA SINK (io), 15 PA1/20mA SINK (io), 16 VSS (power)

## ST6203CM6
designator U?
8-Bit ROM MCU with A/D Converter, Two Timers, Oscillator Safeguard and Safe Reset, 16-Pin SOIC, Industrial; Published: 26-May-2004; DatasheetDocument: rev3.3, Oct-2003; PackageDocument: Apr-1998; PackageReference: SO16W; Publisher: Altium Limited; Code_JEDEC: MS-013-AA; Code_IPC: SO16W
footprint SO16W (Small Outline; 16 Leads; Body Width 7.5 mm; Pitch 1.27 mm)
pins: 1 VDD (power), 2 OSCIN (in), 3 OSCOUT (out), 4 NMI (in), 5 VPP (power), 6 ~{RESET} (in), 7 PB7 (io), 8 PB6 (io), 9 PB5 (io), 10 PB3 (io), 11 PB1 (io), 12 PB0 (io), 13 PA3/20mA SINK (io), 14 PA2/20mA SINK (io), 15 PA1/20mA SINK (io), 16 VSS (power)

## ST6208BB1
designator U?
8-Bit HCMOS MCU; Published: 24-Aug-2001; LatestRevisionDate: 19-Mar-2004; LatestRevisionNote: PCB Footprint - Drill diameter increased by 0.1mm; DatasheetDocument: Oct-1996; PackageDocument: Jun-1998; PackageReference: DIP20; Publisher: Altium Limited; Code_JEDEC: MS-015-AE
footprint DIP20 (DIP; 20 Leads; Row Spacing 7.62 mm; Pitch 2.54 mm)
pins: 1 VDD (power), 2 TIMER (io), 3 OSCIN (in), 4 OSCOUT (out), 5 NMI (in), 6 VPP (power), 7 ~{RESET} (in), 8 PB7 (io), 9 PB6 (io), 10 PB5 (io), 11 PB4 (io), 12 PB3 (io), 13 PB2 (io), 14 PB1 (io), 15 PB0 (io), 16 PA3/20mA SINK (io), 17 PA2/20mA SINK (io), 18 PA1/20mA SINK (io), 19 PA0/20mA SINK (io), 20 VSS (power)

## ST6208BB6
designator U?
8-Bit HCMOS MCU; Published: 24-Aug-2001; LatestRevisionDate: 19-Mar-2004; LatestRevisionNote: PCB Footprint - Drill diameter increased by 0.1mm; DatasheetDocument: Oct-1996; PackageDocument: Jun-1998; PackageReference: DIP20; Publisher: Altium Limited; Code_JEDEC: MS-015-AE
footprint DIP20 (DIP; 20 Leads; Row Spacing 7.62 mm; Pitch 2.54 mm)
pins: 1 VDD (power), 2 TIMER (io), 3 OSCIN (in), 4 OSCOUT (out), 5 NMI (in), 6 VPP (power), 7 ~{RESET} (in), 8 PB7 (io), 9 PB6 (io), 10 PB5 (io), 11 PB4 (io), 12 PB3 (io), 13 PB2 (io), 14 PB1 (io), 15 PB0 (io), 16 PA3/20mA SINK (io), 17 PA2/20mA SINK (io), 18 PA1/20mA SINK (io), 19 PA0/20mA SINK (io), 20 VSS (power)

## ST6208BM1
designator U?
8-Bit HCMOS MCU; Published: 24-Aug-2001; LatestRevisionDate: 17-Jul-2002; LatestRevisionNote: Re-released for DXP Platform.; DatasheetDocument: Oct-1996; PackageDocument: Jul-2001; PackageReference: SO20; Publisher: Altium Limited; Code_JEDEC: MS-013-AC; Code_IPC: SO20W
footprint SO20 (Small Outline, Plastic; 20 Leads; Body Width 7.5 mm; Pitch 1.27 mm)
pins: 1 VDD (power), 2 TIMER (io), 3 OSCIN (in), 4 OSCOUT (out), 5 NMI (in), 6 VPP (power), 7 ~{RESET} (in), 8 PB7 (io), 9 PB6 (io), 10 PB5 (io), 11 PB4 (io), 12 PB3 (io), 13 PB2 (io), 14 PB1 (io), 15 PB0 (io), 16 PA3/20mA SINK (io), 17 PA2/20mA SINK (io), 18 PA1/20mA SINK (io), 19 PA0/20mA SINK (io), 20 VSS (power)

## ST6208BM6
designator U?
8-Bit HCMOS MCU; Published: 24-Aug-2001; LatestRevisionDate: 17-Jul-2002; LatestRevisionNote: Re-released for DXP Platform.; DatasheetDocument: Oct-1996; PackageDocument: Jul-2001; PackageReference: SO20; Publisher: Altium Limited; Code_JEDEC: MS-013-AC; Code_IPC: SO20W
footprint SO20 (Small Outline, Plastic; 20 Leads; Body Width 7.5 mm; Pitch 1.27 mm)
pins: 1 VDD (power), 2 TIMER (io), 3 OSCIN (in), 4 OSCOUT (out), 5 NMI (in), 6 VPP (power), 7 ~{RESET} (in), 8 PB7 (io), 9 PB6 (io), 10 PB5 (io), 11 PB4 (io), 12 PB3 (io), 13 PB2 (io), 14 PB1 (io), 15 PB0 (io), 16 PA3/20mA SINK (io), 17 PA2/20mA SINK (io), 18 PA1/20mA SINK (io), 19 PA0/20mA SINK (io), 20 VSS (power)

## ST6208CB1
designator U?
8-Bit ROM MCU with A/D Converter, Two Timers, Oscillator Safeguard and Safe Reset, 20-Pin PDIP, Standard; Published: 26-May-2004; DatasheetDocument: rev3.3, Oct-2003; PackageDocument: Jul-2003; PackageReference: PDIP20; Publisher: Altium Limited; Code_JEDEC: MS-001-AD
footprint PDIP20 (DIP; 20 Leads; Row Spacing 7.62 mm; Pitch 2.54 mm)
pins: 1 VDD (power), 2 TIMER (io), 3 OSCIN (in), 4 OSCOUT (out), 5 NMI (in), 6 VPP (power), 7 ~{RESET} (in), 8 PB7 (io), 9 PB6 (io), 10 PB5 (io), 11 PB4 (io), 12 PB3 (io), 13 PB2 (io), 14 PB1 (io), 15 PB0 (io), 16 PA3/20mA SINK (io), 17 PA2/20mA SINK (io), 18 PA1/20mA SINK (io), 19 PA0/20mA SINK (io), 20 VSS (power)

## ST6208CB3
designator U?
8-Bit ROM MCU with A/D Converter, Two Timers, Oscillator Safeguard and Safe Reset, 20-Pin PDIP, Automotive; Published: 26-May-2004; DatasheetDocument: rev3.3, Oct-2003; PackageDocument: Jul-2003; PackageReference: PDIP20; Publisher: Altium Limited; Code_JEDEC: MS-001-AD
footprint PDIP20 (DIP; 20 Leads; Row Spacing 7.62 mm; Pitch 2.54 mm)
pins: 1 VDD (power), 2 TIMER (io), 3 OSCIN (in), 4 OSCOUT (out), 5 NMI (in), 6 VPP (power), 7 ~{RESET} (in), 8 PB7 (io), 9 PB6 (io), 10 PB5 (io), 11 PB4 (io), 12 PB3 (io), 13 PB2 (io), 14 PB1 (io), 15 PB0 (io), 16 PA3/20mA SINK (io), 17 PA2/20mA SINK (io), 18 PA1/20mA SINK (io), 19 PA0/20mA SINK (io), 20 VSS (power)

## ST6208CB6
designator U?
8-Bit ROM MCU with A/D Converter, Two Timers, Oscillator Safeguard and Safe Reset, 20-Pin PDIP, Industrial; Published: 26-May-2004; DatasheetDocument: rev3.3, Oct-2003; PackageDocument: Jul-2003; PackageReference: PDIP20; Publisher: Altium Limited; Code_JEDEC: MS-001-AD
footprint PDIP20 (DIP; 20 Leads; Row Spacing 7.62 mm; Pitch 2.54 mm)
pins: 1 VDD (power), 2 TIMER (io), 3 OSCIN (in), 4 OSCOUT (out), 5 NMI (in), 6 VPP (power), 7 ~{RESET} (in), 8 PB7 (io), 9 PB6 (io), 10 PB5 (io), 11 PB4 (io), 12 PB3 (io), 13 PB2 (io), 14 PB1 (io), 15 PB0 (io), 16 PA3/20mA SINK (io), 17 PA2/20mA SINK (io), 18 PA1/20mA SINK (io), 19 PA0/20mA SINK (io), 20 VSS (power)

## ST6208CM1
designator U?
8-Bit ROM MCU with A/D Converter, Two Timers, Oscillator Safeguard and Safe Reset, 20-Pin SOIC, Standard; Published: 26-May-2004; DatasheetDocument: rev3.3, Oct-2003; PackageDocument: Jul-2001; PackageReference: SO20; Publisher: Altium Limited; Code_JEDEC: MS-013-AC; Code_IPC: SO20W
footprint SO20 (Small Outline, Plastic; 20 Leads; Body Width 7.5 mm; Pitch 1.27 mm)
pins: 1 VDD (power), 2 TIMER (io), 3 OSCIN (in), 4 OSCOUT (out), 5 NMI (in), 6 VPP (power), 7 ~{RESET} (in), 8 PB7 (io), 9 PB6 (io), 10 PB5 (io), 11 PB4 (io), 12 PB3 (io), 13 PB2 (io), 14 PB1 (io), 15 PB0 (io), 16 PA3/20mA SINK (io), 17 PA2/20mA SINK (io), 18 PA1/20mA SINK (io), 19 PA0/20mA SINK (io), 20 VSS (power)

## ST6208CM3
designator U?
8-Bit ROM MCU with A/D Converter, Two Timers, Oscillator Safeguard and Safe Reset, 20-Pin SOIC, Automotive; Published: 26-May-2004; DatasheetDocument: rev3.3, Oct-2003; PackageDocument: Jul-2001; PackageReference: SO20; Publisher: Altium Limited; Code_JEDEC: MS-013-AC; Code_IPC: SO20W
footprint SO20 (Small Outline, Plastic; 20 Leads; Body Width 7.5 mm; Pitch 1.27 mm)
pins: 1 VDD (power), 2 TIMER (io), 3 OSCIN (in), 4 OSCOUT (out), 5 NMI (in), 6 VPP (power), 7 ~{RESET} (in), 8 PB7 (io), 9 PB6 (io), 10 PB5 (io), 11 PB4 (io), 12 PB3 (io), 13 PB2 (io), 14 PB1 (io), 15 PB0 (io), 16 PA3/20mA SINK (io), 17 PA2/20mA SINK (io), 18 PA1/20mA SINK (io), 19 PA0/20mA SINK (io), 20 VSS (power)

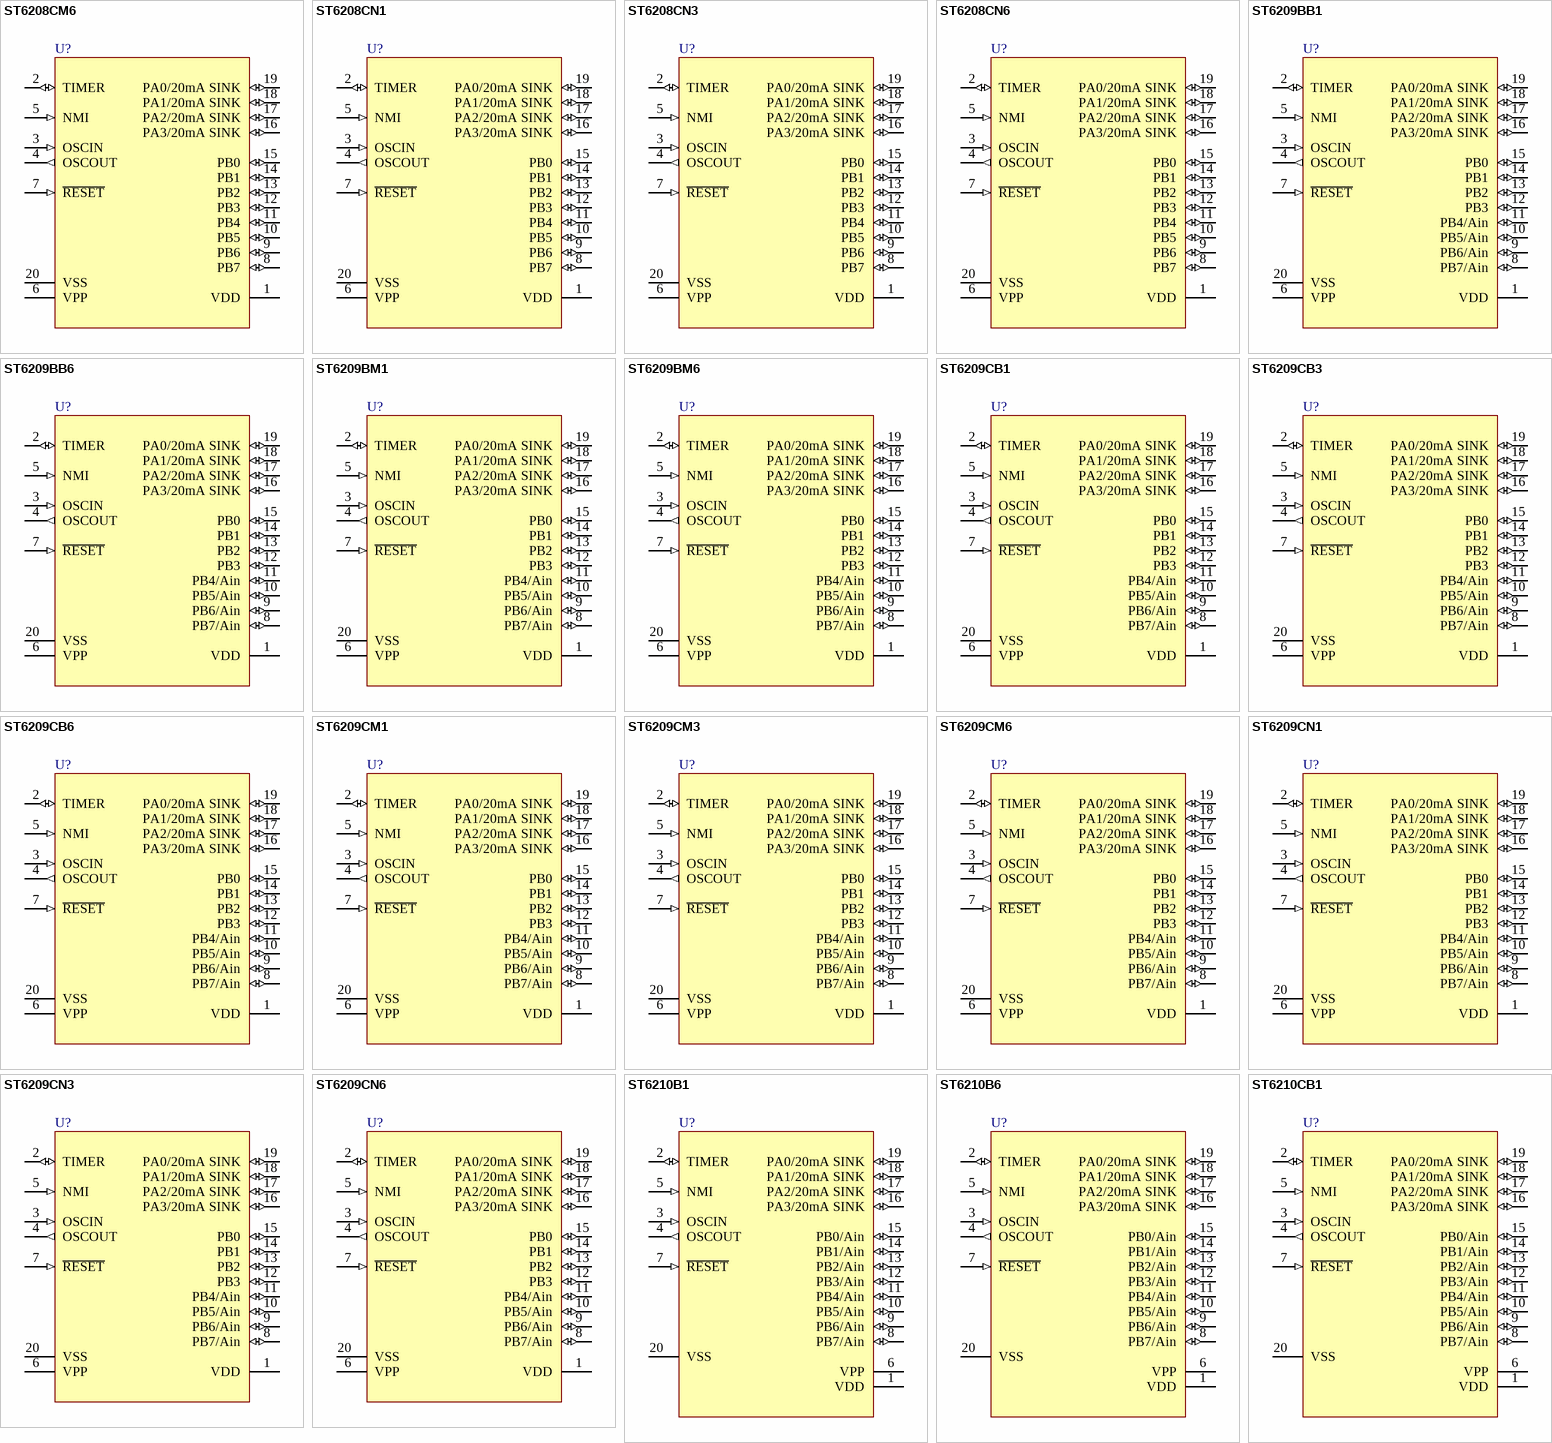
[diagram p79: symbols ST6208CM6 to ST6210CB1]

## ST6208CM6
designator U?
8-Bit ROM MCU with A/D Converter, Two Timers, Oscillator Safeguard and Safe Reset, 20-Pin SOIC, Industrial; Published: 26-May-2004; DatasheetDocument: rev3.3, Oct-2003; PackageDocument: Jul-2001; PackageReference: SO20; Publisher: Altium Limited; Code_JEDEC: MS-013-AC; Code_IPC: SO20W
footprint SO20 (Small Outline, Plastic; 20 Leads; Body Width 7.5 mm; Pitch 1.27 mm)
pins: 1 VDD (power), 2 TIMER (io), 3 OSCIN (in), 4 OSCOUT (out), 5 NMI (in), 6 VPP (power), 7 ~{RESET} (in), 8 PB7 (io), 9 PB6 (io), 10 PB5 (io), 11 PB4 (io), 12 PB3 (io), 13 PB2 (io), 14 PB1 (io), 15 PB0 (io), 16 PA3/20mA SINK (io), 17 PA2/20mA SINK (io), 18 PA1/20mA SINK (io), 19 PA0/20mA SINK (io), 20 VSS (power)

## ST6208CN1
designator U?
8-Bit ROM MCU with A/D Converter, Two Timers, Oscillator Safeguard and Safe Reset, 20-Pin SSOP, Standard; Published: 26-May-2004; DatasheetDocument: rev3.3, Oct-2003; PackageDocument: Oct-2003; PackageReference: SSOP20; Publisher: Altium Limited; Code_JEDEC: MO-150-AE
footprint SSOP20 (SSOP, Plastic; 20 Leads; Body Width 5.3 mm; Pitch 0.65 mm)
pins: 1 VDD (power), 2 TIMER (io), 3 OSCIN (in), 4 OSCOUT (out), 5 NMI (in), 6 VPP (power), 7 ~{RESET} (in), 8 PB7 (io), 9 PB6 (io), 10 PB5 (io), 11 PB4 (io), 12 PB3 (io), 13 PB2 (io), 14 PB1 (io), 15 PB0 (io), 16 PA3/20mA SINK (io), 17 PA2/20mA SINK (io), 18 PA1/20mA SINK (io), 19 PA0/20mA SINK (io), 20 VSS (power)

## ST6208CN3
designator U?
8-Bit ROM MCU with A/D Converter, Two Timers, Oscillator Safeguard and Safe Reset, 20-Pin SSOP, Automotive; Published: 26-May-2004; DatasheetDocument: rev3.3, Oct-2003; PackageDocument: Oct-2003; PackageReference: SSOP20; Publisher: Altium Limited; Code_JEDEC: MO-150-AE
footprint SSOP20 (SSOP, Plastic; 20 Leads; Body Width 5.3 mm; Pitch 0.65 mm)
pins: 1 VDD (power), 2 TIMER (io), 3 OSCIN (in), 4 OSCOUT (out), 5 NMI (in), 6 VPP (power), 7 ~{RESET} (in), 8 PB7 (io), 9 PB6 (io), 10 PB5 (io), 11 PB4 (io), 12 PB3 (io), 13 PB2 (io), 14 PB1 (io), 15 PB0 (io), 16 PA3/20mA SINK (io), 17 PA2/20mA SINK (io), 18 PA1/20mA SINK (io), 19 PA0/20mA SINK (io), 20 VSS (power)

## ST6208CN6
designator U?
8-Bit ROM MCU with A/D Converter, Two Timers, Oscillator Safeguard and Safe Reset, 20-Pin SSOP, Industrial; Published: 26-May-2004; DatasheetDocument: rev3.3, Oct-2003; PackageDocument: Oct-2003; PackageReference: SSOP20; Publisher: Altium Limited; Code_JEDEC: MO-150-AE
footprint SSOP20 (SSOP, Plastic; 20 Leads; Body Width 5.3 mm; Pitch 0.65 mm)
pins: 1 VDD (power), 2 TIMER (io), 3 OSCIN (in), 4 OSCOUT (out), 5 NMI (in), 6 VPP (power), 7 ~{RESET} (in), 8 PB7 (io), 9 PB6 (io), 10 PB5 (io), 11 PB4 (io), 12 PB3 (io), 13 PB2 (io), 14 PB1 (io), 15 PB0 (io), 16 PA3/20mA SINK (io), 17 PA2/20mA SINK (io), 18 PA1/20mA SINK (io), 19 PA0/20mA SINK (io), 20 VSS (power)

## ST6209BB1
designator U?
8-Bit HCMOS MCU with A/D Converter; Published: 24-Aug-2001; LatestRevisionDate: 19-Mar-2004; LatestRevisionNote: PCB Footprint - Drill diameter increased by 0.1mm; DatasheetDocument: Oct-1996; PackageDocument: Jun-1998; PackageReference: DIP20; Publisher: Altium Limited; Code_JEDEC: MS-015-AE
footprint DIP20 (DIP; 20 Leads; Row Spacing 7.62 mm; Pitch 2.54 mm)
pins: 1 VDD (power), 2 TIMER (io), 3 OSCIN (in), 4 OSCOUT (out), 5 NMI (in), 6 VPP (power), 7 ~{RESET} (in), 8 PB7/Ain (io), 9 PB6/Ain (io), 10 PB5/Ain (io), 11 PB4/Ain (io), 12 PB3 (io), 13 PB2 (io), 14 PB1 (io), 15 PB0 (io), 16 PA3/20mA SINK (io), 17 PA2/20mA SINK (io), 18 PA1/20mA SINK (io), 19 PA0/20mA SINK (io), 20 VSS (power)

## ST6209BB6
designator U?
8-Bit HCMOS MCU with A/D Converter; Published: 24-Aug-2001; LatestRevisionDate: 19-Mar-2004; LatestRevisionNote: PCB Footprint - Drill diameter increased by 0.1mm; DatasheetDocument: Oct-1996; PackageDocument: Jun-1998; PackageReference: DIP20; Publisher: Altium Limited; Code_JEDEC: MS-015-AE
footprint DIP20 (DIP; 20 Leads; Row Spacing 7.62 mm; Pitch 2.54 mm)
pins: 1 VDD (power), 2 TIMER (io), 3 OSCIN (in), 4 OSCOUT (out), 5 NMI (in), 6 VPP (power), 7 ~{RESET} (in), 8 PB7/Ain (io), 9 PB6/Ain (io), 10 PB5/Ain (io), 11 PB4/Ain (io), 12 PB3 (io), 13 PB2 (io), 14 PB1 (io), 15 PB0 (io), 16 PA3/20mA SINK (io), 17 PA2/20mA SINK (io), 18 PA1/20mA SINK (io), 19 PA0/20mA SINK (io), 20 VSS (power)

## ST6209BM1
designator U?
8-Bit HCMOS MCU with A/D Converter; Published: 24-Aug-2001; LatestRevisionDate: 17-Jul-2002; LatestRevisionNote: Re-released for DXP Platform.; DatasheetDocument: Oct-1996; PackageDocument: Jul-2001; PackageReference: SO20; Publisher: Altium Limited; Code_JEDEC: MS-013-AC; Code_IPC: SO20W
footprint SO20 (Small Outline, Plastic; 20 Leads; Body Width 7.5 mm; Pitch 1.27 mm)
pins: 1 VDD (power), 2 TIMER (io), 3 OSCIN (in), 4 OSCOUT (out), 5 NMI (in), 6 VPP (power), 7 ~{RESET} (in), 8 PB7/Ain (io), 9 PB6/Ain (io), 10 PB5/Ain (io), 11 PB4/Ain (io), 12 PB3 (io), 13 PB2 (io), 14 PB1 (io), 15 PB0 (io), 16 PA3/20mA SINK (io), 17 PA2/20mA SINK (io), 18 PA1/20mA SINK (io), 19 PA0/20mA SINK (io), 20 VSS (power)

## ST6209BM6
designator U?
8-Bit HCMOS MCU with A/D Converter; Published: 24-Aug-2001; LatestRevisionDate: 17-Jul-2002; LatestRevisionNote: Re-released for DXP Platform.; DatasheetDocument: Oct-1996; PackageDocument: Jul-2001; PackageReference: SO20; Publisher: Altium Limited; Code_JEDEC: MS-013-AC; Code_IPC: SO20W
footprint SO20 (Small Outline, Plastic; 20 Leads; Body Width 7.5 mm; Pitch 1.27 mm)
pins: 1 VDD (power), 2 TIMER (io), 3 OSCIN (in), 4 OSCOUT (out), 5 NMI (in), 6 VPP (power), 7 ~{RESET} (in), 8 PB7/Ain (io), 9 PB6/Ain (io), 10 PB5/Ain (io), 11 PB4/Ain (io), 12 PB3 (io), 13 PB2 (io), 14 PB1 (io), 15 PB0 (io), 16 PA3/20mA SINK (io), 17 PA2/20mA SINK (io), 18 PA1/20mA SINK (io), 19 PA0/20mA SINK (io), 20 VSS (power)

## ST6209CB1
designator U?
8-Bit ROM MCU with A/D Converter, Two Timers, Oscillator Safeguard and Safe Reset, 20-Pin PDIP, Standard; Published: 26-May-2004; DatasheetDocument: rev3.3, Oct-2003; PackageDocument: Jul-2003; PackageReference: PDIP20; Publisher: Altium Limited; Code_JEDEC: MS-001-AD
footprint PDIP20 (DIP; 20 Leads; Row Spacing 7.62 mm; Pitch 2.54 mm)
pins: 1 VDD (power), 2 TIMER (io), 3 OSCIN (in), 4 OSCOUT (out), 5 NMI (in), 6 VPP (power), 7 ~{RESET} (in), 8 PB7/Ain (io), 9 PB6/Ain (io), 10 PB5/Ain (io), 11 PB4/Ain (io), 12 PB3 (io), 13 PB2 (io), 14 PB1 (io), 15 PB0 (io), 16 PA3/20mA SINK (io), 17 PA2/20mA SINK (io), 18 PA1/20mA SINK (io), 19 PA0/20mA SINK (io), 20 VSS (power)

## ST6209CB3
designator U?
8-Bit ROM MCU with A/D Converter, Two Timers, Oscillator Safeguard and Safe Reset, 20-Pin PDIP, Automotive; Published: 26-May-2004; DatasheetDocument: rev3.3, Oct-2003; PackageDocument: Jul-2003; PackageReference: PDIP20; Publisher: Altium Limited; Code_JEDEC: MS-001-AD
footprint PDIP20 (DIP; 20 Leads; Row Spacing 7.62 mm; Pitch 2.54 mm)
pins: 1 VDD (power), 2 TIMER (io), 3 OSCIN (in), 4 OSCOUT (out), 5 NMI (in), 6 VPP (power), 7 ~{RESET} (in), 8 PB7/Ain (io), 9 PB6/Ain (io), 10 PB5/Ain (io), 11 PB4/Ain (io), 12 PB3 (io), 13 PB2 (io), 14 PB1 (io), 15 PB0 (io), 16 PA3/20mA SINK (io), 17 PA2/20mA SINK (io), 18 PA1/20mA SINK (io), 19 PA0/20mA SINK (io), 20 VSS (power)

## ST6209CB6
designator U?
8-Bit ROM MCU with A/D Converter, Two Timers, Oscillator Safeguard and Safe Reset, 20-Pin PDIP, Industrial; Published: 26-May-2004; DatasheetDocument: rev3.3, Oct-2003; PackageDocument: Jul-2003; PackageReference: PDIP20; Publisher: Altium Limited; Code_JEDEC: MS-001-AD
footprint PDIP20 (DIP; 20 Leads; Row Spacing 7.62 mm; Pitch 2.54 mm)
pins: 1 VDD (power), 2 TIMER (io), 3 OSCIN (in), 4 OSCOUT (out), 5 NMI (in), 6 VPP (power), 7 ~{RESET} (in), 8 PB7/Ain (io), 9 PB6/Ain (io), 10 PB5/Ain (io), 11 PB4/Ain (io), 12 PB3 (io), 13 PB2 (io), 14 PB1 (io), 15 PB0 (io), 16 PA3/20mA SINK (io), 17 PA2/20mA SINK (io), 18 PA1/20mA SINK (io), 19 PA0/20mA SINK (io), 20 VSS (power)

## ST6209CM1
designator U?
8-Bit ROM MCU with A/D Converter, Two Timers, Oscillator Safeguard and Safe Reset, 20-Pin SOIC, Standard; Published: 26-May-2004; DatasheetDocument: rev3.3, Oct-2003; PackageDocument: Jul-2001; PackageReference: SO20; Publisher: Altium Limited; Code_JEDEC: MS-013-AC; Code_IPC: SO20W
footprint SO20 (Small Outline, Plastic; 20 Leads; Body Width 7.5 mm; Pitch 1.27 mm)
pins: 1 VDD (power), 2 TIMER (io), 3 OSCIN (in), 4 OSCOUT (out), 5 NMI (in), 6 VPP (power), 7 ~{RESET} (in), 8 PB7/Ain (io), 9 PB6/Ain (io), 10 PB5/Ain (io), 11 PB4/Ain (io), 12 PB3 (io), 13 PB2 (io), 14 PB1 (io), 15 PB0 (io), 16 PA3/20mA SINK (io), 17 PA2/20mA SINK (io), 18 PA1/20mA SINK (io), 19 PA0/20mA SINK (io), 20 VSS (power)

## ST6209CM3
designator U?
8-Bit ROM MCU with A/D Converter, Two Timers, Oscillator Safeguard and Safe Reset, 20-Pin SOIC, Automotive; Published: 26-May-2004; DatasheetDocument: rev3.3, Oct-2003; PackageDocument: Jul-2001; PackageReference: SO20; Publisher: Altium Limited; Code_JEDEC: MS-013-AC; Code_IPC: SO20W
footprint SO20 (Small Outline, Plastic; 20 Leads; Body Width 7.5 mm; Pitch 1.27 mm)
pins: 1 VDD (power), 2 TIMER (io), 3 OSCIN (in), 4 OSCOUT (out), 5 NMI (in), 6 VPP (power), 7 ~{RESET} (in), 8 PB7/Ain (io), 9 PB6/Ain (io), 10 PB5/Ain (io), 11 PB4/Ain (io), 12 PB3 (io), 13 PB2 (io), 14 PB1 (io), 15 PB0 (io), 16 PA3/20mA SINK (io), 17 PA2/20mA SINK (io), 18 PA1/20mA SINK (io), 19 PA0/20mA SINK (io), 20 VSS (power)

## ST6209CM6
designator U?
8-Bit ROM MCU with A/D Converter, Two Timers, Oscillator Safeguard and Safe Reset, 20-Pin SOIC, Industrial; Published: 26-May-2004; DatasheetDocument: rev3.3, Oct-2003; PackageDocument: Jul-2001; PackageReference: SO20; Publisher: Altium Limited; Code_JEDEC: MS-013-AC; Code_IPC: SO20W
footprint SO20 (Small Outline, Plastic; 20 Leads; Body Width 7.5 mm; Pitch 1.27 mm)
pins: 1 VDD (power), 2 TIMER (io), 3 OSCIN (in), 4 OSCOUT (out), 5 NMI (in), 6 VPP (power), 7 ~{RESET} (in), 8 PB7/Ain (io), 9 PB6/Ain (io), 10 PB5/Ain (io), 11 PB4/Ain (io), 12 PB3 (io), 13 PB2 (io), 14 PB1 (io), 15 PB0 (io), 16 PA3/20mA SINK (io), 17 PA2/20mA SINK (io), 18 PA1/20mA SINK (io), 19 PA0/20mA SINK (io), 20 VSS (power)